# Altium schematic symbol library andylib.SchLib: 144 symbols (part 1 of 2)
Pins are listed as number, name and electrical type; pins without a type are passive.

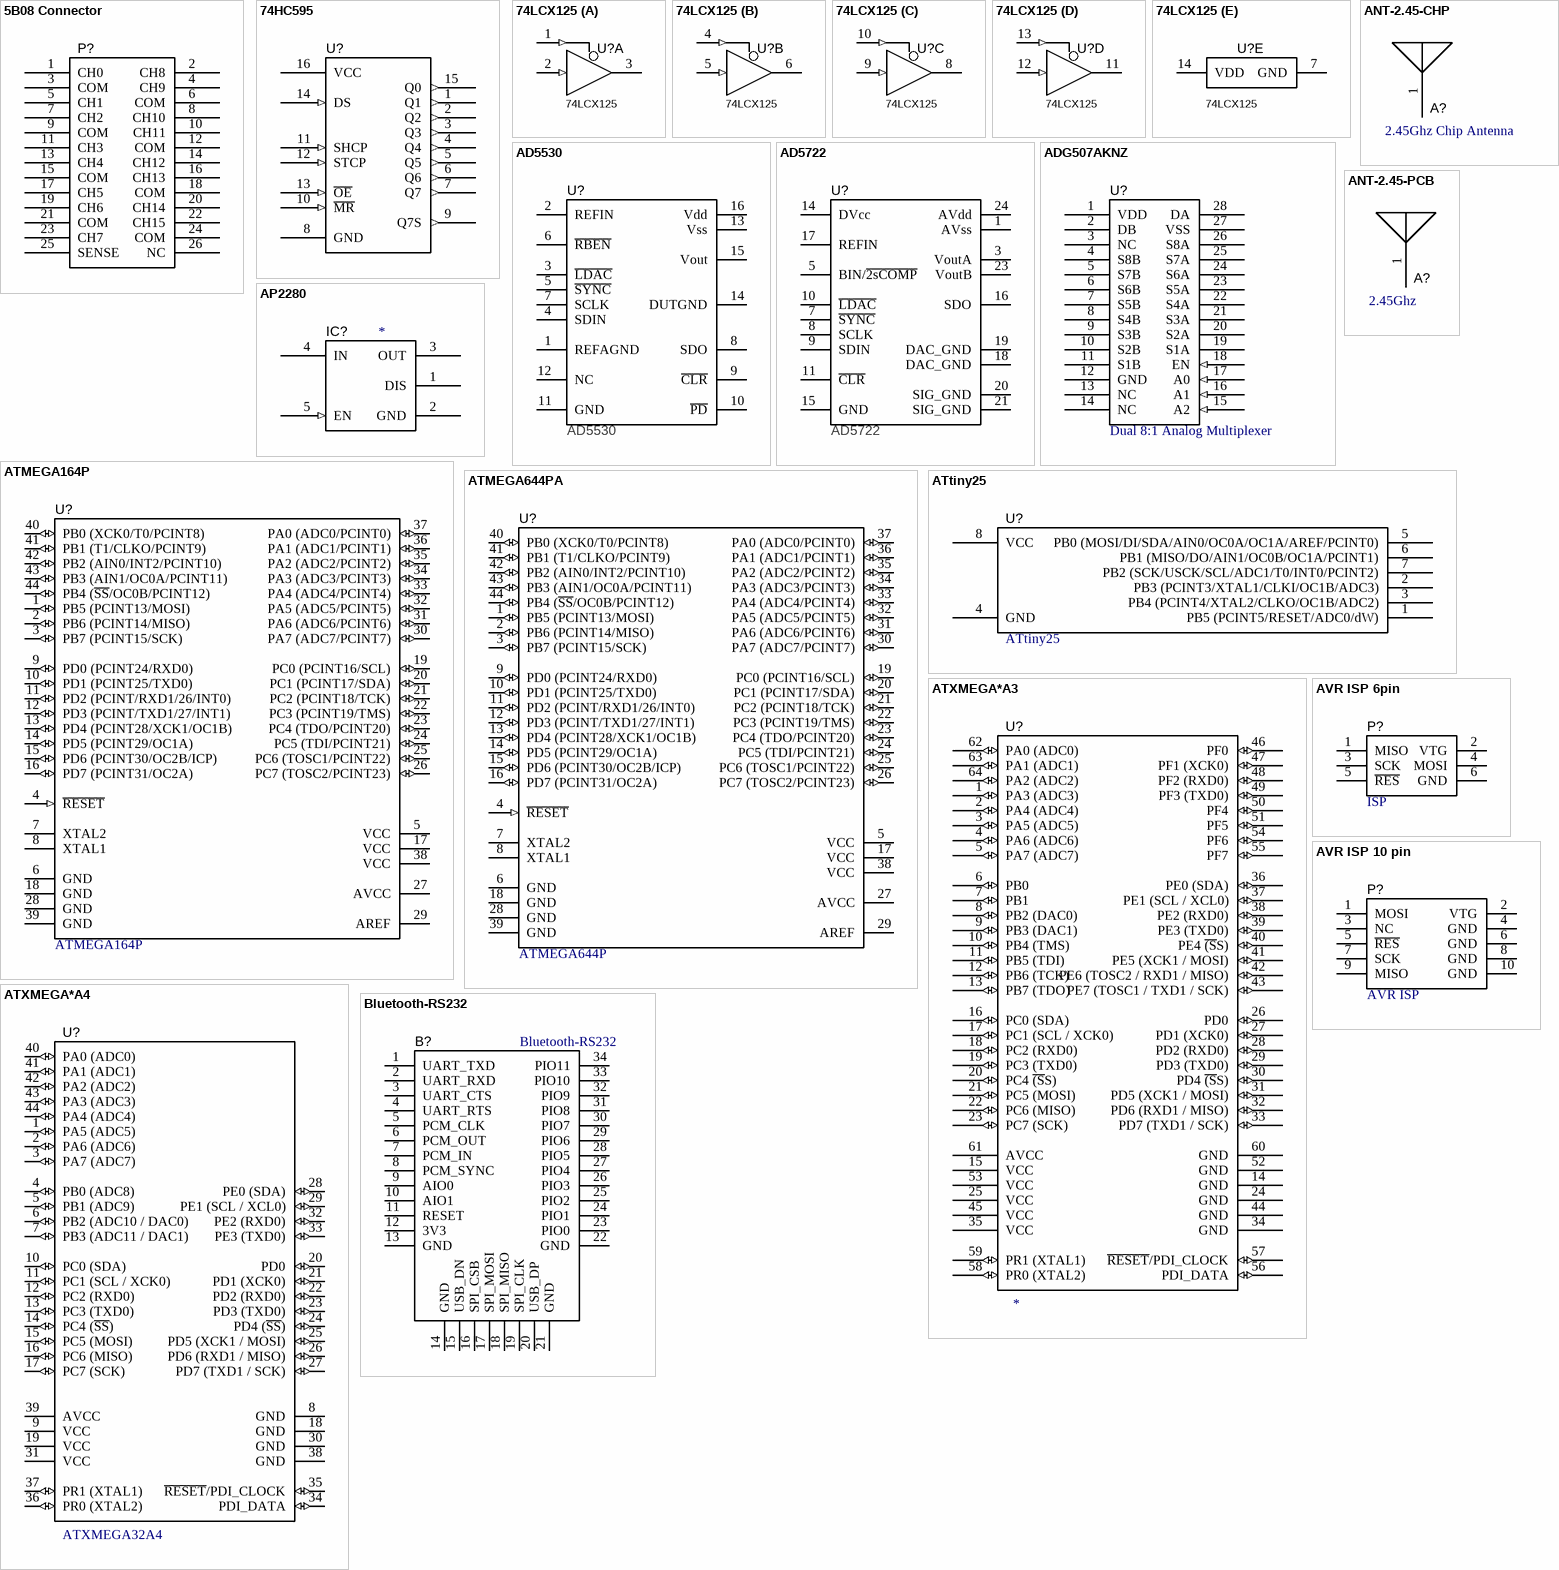
[diagram p0: symbols 5B08 Connector to Bluetooth-RS232]

## 5B08 Connector
designator P?  (value not drawn)
footprint HEADER2x13 (Connector; Header; 13x2 Position)
pins: 1 CH0, 2 CH8, 3 COM, 4 CH9, 5 CH1, 6 COM, 7 CH2, 8 CH10, 9 COM, 10 CH11, 11 CH3, 12 COM, 13 CH4, 14 CH12, 15 COM, 16 CH13, 17 CH5, 18 COM, 19 CH6, 20 CH14, 21 COM, 22 CH15, 23 CH7, 24 COM, 25 SENSE, 26 NC

## 74HC595
designator U?
8-bit shift register with output latches; Supplier 1: Digi-Key; Supplier Part Number 1: MM74HC595M-ND
footprint TSSOP16 (TSOP, 16-Leads, Body 5x4.4mm, Pitch 0.65mm, IPC Medium Density)
pins: 1 Q1 (out), 2 Q2 (out), 3 Q3 (out), 4 Q4 (out), 5 Q5 (out), 6 Q6 (out), 7 Q7 (out), 8 GND (power), 9 Q7S (out), 10 ~{MR} (in), 11 SHCP (in), 12 STCP (in), 13 ~{OE} (in), 14 DS (in), 15 Q0 (out), 16 VCC (power)

## 74LCX125
designator U?
Quad Buffer with 3-State Outputs; Published: 15-Apr-2002; LatestRevisionDate: 13-Apr-2006; LatestRevisionNote: IPC-7351 Footprint Added.; DatasheetVersion: 9-Apr-1996; PackageReference: 751A-03; Publisher: Altium Limited; PackageDescription: 14-Pin Small Outline Integrated Circuit 1.27 mm Pitch; Code_JEDEC: MS-012-AB; Code_IPC: SOIC127P600-14; ComponentLink1Description: Manufacturer Link; ComponentLink1URL: http://www.onsemi.com/; ComponentLink2Description: Datasheet; ComponentLink2URL: http://www.onsemi.com/pub/Collateral/MC74AC125-D.PDF; Supplier 1: Digi-Key; Supplier 2: Mouser; Supplier Part Number 1: 74LCX125MXCT-ND; Supplier Part Number 2: 512-74LCX125MX
footprint SOIC 14 (14-Pin Small Outline Integrated Circuit 1.27 mm Pitch, IPC Low Density)
part A pins: 1 ~{A} (in), 2 B (in), 3 Y (hiz)
part B pins: 4 ~{A} (in), 5 B (in), 6 Y (hiz)
part C pins: 8 Y (hiz), 9 B (in), 10 ~{A} (in)
part D pins: 11 Y (hiz), 12 B (in), 13 ~{A} (in)
part E pins: 7 GND (power), 14 VDD (power)

## AD5530
designator U?
12 bit +/-10V DAC
footprint TSSOP16 (TSOP, 16-Leads, Body 5x4.4mm, Pitch 0.65mm, IPC Medium Density)
pins: 1 REFAGND, 2 REFIN, 3 ~{LDAC}, 4 SDIN, 5 ~{SYNC}, 6 ~{RBEN}, 7 SCLK, 8 SDO, 9 ~{CLR}, 10 ~{PD}, 11 GND, 12 NC, 13 Vss, 14 DUTGND, 15 Vout, 16 Vdd

## AD5722
designator U?
12 bit +/-10V DAC
footprint TSSOP24 (TSOP, 24-Leads, Body 7.9x4.5mm (max), Pitch 0.65mm, IPC Low Density)
pins: 1 AVss, 2 NC hidden to Vout, 3 VoutA, 4 NC hidden to Vout, 5 BIN/~{2sCOMP}, 6 NC hidden to Vout, 7 ~{SYNC}, 8 SCLK, 9 SDIN, 10 ~{LDAC}, 11 ~{CLR}, 12 NC hidden to Vout, 13 NC hidden to Vout, 14 DVcc, 15 GND, 16 SDO, 17 REFIN, 18 DAC_GND, 19 DAC_GND, 20 SIG_GND, 21 SIG_GND, 22 NC hidden to Vout, 23 VoutB, 24 AVdd

## ADG507AKNZ
designator U?, comment Dual 8:1 Analog Multiplexer
Farnell: 9604960
footprint DIP-28
pins: 1 VDD (power), 2 DB, 3 NC, 4 S8B, 5 S7B, 6 S6B, 7 S5B, 8 S4B (power), 9 S3B, 10 S2B, 11 S1B, 12 GND, 13 NC, 14 NC, 15 A2 (in), 16 A1 (in), 17 A0 (in), 18 EN (in), 19 S1A, 20 S2A, 21 S3A, 22 S4A, 23 S5A, 24 S6A, 25 S7A, 26 S8A, 27 VSS (power), 28 DA

## ANT-2.45-CHP
designator A?, comment 2.45Ghz Chip Antenna
pins: 1

## ANT-2.45-PCB
designator A?, comment 2.45Ghz
2.45Ghz PCB Antenna
footprint ANT-PCB-2.45Ghz (PCB Antenna - #1)
pins: 1

## AP2280
designator IC?
Single Channel Load Switch
footprint SOT23-5 (SOT23, 5-Leads, Body 3.1x3.0mm (max), Pitch 0.95mm, IPC Low Density)
pins: 1 DIS, 2 GND (power), 3 OUT (power), 4 IN (power), 5 EN (in)

## ATMEGA164P
designator U?
8 bit RISC Microcontroller; Supplier 1: Digi-Key; Supplier 2: Mouser; Supplier Part Number 1: ATMEGA164P-20AU-ND; Supplier Part Number 2: 556-ATMEGA164P-20AU
footprint TQFP44
pins: 1 PB5 (PCINT13/MOSI) (io), 2 PB6 (PCINT14/MISO) (io), 3 PB7 (PCINT15/SCK) (io), 4 ~{RESET} (in), 5 VCC (power), 6 GND (power), 7 XTAL2, 8 XTAL1, 9 PD0 (PCINT24/RXD0) (io), 10 PD1 (PCINT25/TXD0) (io), 11 PD2 (PCINT/RXD1/26/INT0) (io), 12 PD3 (PCINT/TXD1/27/INT1) (io), 13 PD4 (PCINT28/XCK1/OC1B) (io), 14 PD5 (PCINT29/OC1A) (io), 15 PD6 (PCINT30/OC2B/ICP) (io), 16 PD7 (PCINT31/OC2A) (io), 17 VCC (power), 18 GND (power), 19 PC0 (PCINT16/SCL) (io), 20 PC1 (PCINT17/SDA) (io), 21 PC2 (PCINT18/TCK) (io), 22 PC3 (PCINT19/TMS) (io), 23 PC4 (TDO/PCINT20) (io), 24 PC5 (TDI/PCINT21) (io), 25 PC6 (TOSC1/PCINT22) (io), 26 PC7 (TOSC2/PCINT23) (io), 27 AVCC (power), 28 GND (power), 29 AREF (power), 30 PA7 (ADC7/PCINT7) (io), 31 PA6 (ADC6/PCINT6) (io), 32 PA5 (ADC5/PCINT5) (io), 33 PA4 (ADC4/PCINT4) (io), 34 PA3 (ADC3/PCINT3) (io), 35 PA2 (ADC2/PCINT2) (io), 36 PA1 (ADC1/PCINT1) (io), 37 PA0 (ADC0/PCINT0) (io), 38 VCC (power), 39 GND (power), 40 PB0 (XCK0/T0/PCINT8) (io), 41 PB1 (T1/CLKO/PCINT9) (io), 42 PB2 (AIN0/INT2/PCINT10) (io), 43 PB3 (AIN1/OC0A/PCINT11) (io), 44 PB4 (~{SS}/OC0B/PCINT12) (io)

## ATMEGA644PA
designator U?, comment ATMEGA644P
Supplier 1: Mouser; Supplier Part Number 1: 556-ATMEGA644P-20AU
footprint TQFP44
pins: 1 PB5 (PCINT13/MOSI) (io), 2 PB6 (PCINT14/MISO) (io), 3 PB7 (PCINT15/SCK) (io), 4 ~{RESET} (in), 5 VCC (power), 6 GND (power), 7 XTAL2, 8 XTAL1, 9 PD0 (PCINT24/RXD0) (io), 10 PD1 (PCINT25/TXD0) (io), 11 PD2 (PCINT/RXD1/26/INT0) (io), 12 PD3 (PCINT/TXD1/27/INT1) (io), 13 PD4 (PCINT28/XCK1/OC1B) (io), 14 PD5 (PCINT29/OC1A) (io), 15 PD6 (PCINT30/OC2B/ICP) (io), 16 PD7 (PCINT31/OC2A) (io), 17 VCC (power), 18 GND (power), 19 PC0 (PCINT16/SCL) (io), 20 PC1 (PCINT17/SDA) (io), 21 PC2 (PCINT18/TCK) (io), 22 PC3 (PCINT19/TMS) (io), 23 PC4 (TDO/PCINT20) (io), 24 PC5 (TDI/PCINT21) (io), 25 PC6 (TOSC1/PCINT22) (io), 26 PC7 (TOSC2/PCINT23) (io), 27 AVCC (power), 28 GND (power), 29 AREF (power), 30 PA7 (ADC7/PCINT7) (io), 31 PA6 (ADC6/PCINT6) (io), 32 PA5 (ADC5/PCINT5) (io), 33 PA4 (ADC4/PCINT4) (io), 34 PA3 (ADC3/PCINT3) (io), 35 PA2 (ADC2/PCINT2) (io), 36 PA1 (ADC1/PCINT1) (io), 37 PA0 (ADC0/PCINT0) (io), 38 VCC (power), 39 GND (power), 40 PB0 (XCK0/T0/PCINT8) (io), 41 PB1 (T1/CLKO/PCINT9) (io), 42 PB2 (AIN0/INT2/PCINT10) (io), 43 PB3 (AIN1/OC0A/PCINT11) (io), 44 PB4 (~{SS}/OC0B/PCINT12) (io)

## ATtiny25
designator U?
footprint SOIC8 - ATtiny25 (8-Pin Small Outline Integrated Circuit 1.27 mm Pitch, IPC High Density)
pins: 1 PB5 (PCINT5/RESET/ADC0/dW), 2 PB3 (PCINT3/XTAL1/CLKI/OC1B/ADC3), 3 PB4 (PCINT4/XTAL2/CLKO/OC1B/ADC2), 4 GND, 5 PB0 (MOSI/DI/SDA/AIN0/OC0A/OC1A/AREF/PCINT0), 6 PB1 (MISO/DO/AIN1/OC0B/OC1A/PCINT1), 7 PB2 (SCK/USCK/SCL/ADC1/T0/INT0/PCINT2), 8 VCC

## ATXMEGA*A3
designator U?
8/16 bit Microcontroller
footprint QFN64 (Quad Flat No Leads)
footprint TQFP80P1600X1600X120-64N (TQFP, 64-Leads, Body 16.3x16.3mm (max), Pitch 0.80mm, IPC Medium Density)
pins: 1 PA3 (ADC3) (io) "GPIO A0", 2 PA4 (ADC4) (io) "GPIO A0", 3 PA5 (ADC5) (io) "GPIO A0", 4 PA6 (ADC6) (io) "GPIO A0", 5 PA7 (ADC7) (io) "GPIO A0", 6 PB0 (io) "GPIO A0", 7 PB1 (io) "GPIO A0", 8 PB2 (DAC0) (io) "GPIO A0", 9 PB3 (DAC1) (io) "GPIO A0", 10 PB4 (TMS) (io) "GPIO A0", 11 PB5 (TDI) (io) "GPIO A0", 12 PB6 (TCK) (io) "GPIO A0", 13 PB7 (TDO) (io) "GPIO A0", 14 GND (power) "GPIO A0", 15 VCC (power) "GPIO A0", 16 PC0 (SDA) (io) "GPIO A0", 17 PC1 (SCL / XCK0) (io) "GPIO A0", 18 PC2 (RXD0) (io) "GPIO A0", 19 PC3 (TXD0) (io) "GPIO A0", 20 PC4 ~{(S}S) (io) "GPIO A0", 21 PC5 (MOSI) (io) "GPIO A0", 22 PC6 (MISO) (io) "GPIO A0", 23 PC7 (SCK) (io) "GPIO A0", 24 GND (power) "GPIO A0", 25 VCC (power) "GPIO A0", 26 PD0 (io) "GPIO A0", 27 PD1 (XCK0) (io) "GPIO A0", 28 PD2 (RXD0) (io) "GPIO A0", 29 PD3 (TXD0) (io) "GPIO A0", 30 PD4 ~{(S}S) (io) "GPIO A0", 31 PD5 (XCK1 / MOSI) (io) "GPIO A0", 32 PD6 (RXD1 / MISO) (io) "GPIO A0", 33 PD7 (TXD1 / SCK) (io) "GPIO A0", 34 GND (power) "GPIO A0", 35 VCC (power) "GPIO A0", 36 PE0 (SDA) (io) "GPIO A0", 37 PE1 (SCL / XCL0) (io) "GPIO A0", 38 PE2 (RXD0) (io) "GPIO A0", 39 PE3 (TXD0) (io) "GPIO A0", 40 PE4 ~{(S}S) (io) "GPIO A0", 41 PE5 (XCK1 / MOSI) (io) "GPIO A0", 42 PE6 (TOSC2 / RXD1 / MISO) (io) "GPIO A0", 43 PE7 (TOSC1 / TXD1 / SCK) (io) "GPIO A0", 44 GND (power) "GPIO A0", 45 VCC (power) "GPIO A0", 46 PF0 (io) "GPIO A0", 47 PF1 (XCK0) (io) "GPIO A0", 48 PF2 (RXD0) (io) "GPIO A0", 49 PF3 (TXD0) (io) "GPIO A0", 50 PF4 (io) "GPIO A0", 51 PF5 (io) "GPIO A0", 52 GND (power) "GPIO A0", 53 VCC (power) "GPIO A0", 54 PF6 (io) "GPIO A0", 55 PF7 (io) "GPIO A0", 56 PDI_DATA (io) "GPIO A0", 57 ~{RESET}/PDI_CLOCK (io) "GPIO A0", 58 PR0 (XTAL2) (io) "GPIO A0", 59 PR1 (XTAL1) (io) "GPIO A0", 60 GND (power) "GPIO A0", 61 AVCC (power) "GPIO A0", 62 PA0 (ADC0) (io) "GPIO A0", 63 PA1 (ADC1) (io) "GPIO A0", 64 PA2 (ADC2) (io) "GPIO A0"

## ATXMEGA*A4
designator U?, comment ATXMEGA32A4
8/16 bit Microcontroller; Supplier 1: Digi-Key; Supplier 2: Mouser; Supplier 3: Mouser; Supplier Part Number 1: ATXMEGA32A4-AU-ND; Supplier Part Number 3: 556-ATXMEGA32A4-AU
footprint TQFP44
pins: 1 PA5 (ADC5) (io), 2 PA6 (ADC6) (io), 3 PA7 (ADC7) (io), 4 PB0 (ADC8) (io), 5 PB1 (ADC9) (io), 6 PB2 (ADC10 / DAC0) (io), 7 PB3 (ADC11 / DAC1) (io), 8 GND (power), 9 VCC (power), 10 PC0 (SDA) (io), 11 PC1 (SCL / XCK0) (io), 12 PC2 (RXD0) (io), 13 PC3 (TXD0) (io), 14 PC4 (~{SS}) (io), 15 PC5 (MOSI) (io), 16 PC6 (MISO) (io), 17 PC7 (SCK) (io), 18 GND (power), 19 VCC (power), 20 PD0 (io), 21 PD1 (XCK0) (io), 22 PD2 (RXD0) (io), 23 PD3 (TXD0) (io), 24 PD4 (~{SS}) (io), 25 PD5 (XCK1 / MOSI) (io), 26 PD6 (RXD1 / MISO) (io), 27 PD7 (TXD1 / SCK) (io), 28 PE0 (SDA) (io), 29 PE1 (SCL / XCL0) (io), 30 GND (power), 31 VCC (power), 32 PE2 (RXD0) (io), 33 PE3 (TXD0) (io), 34 PDI_DATA (io), 35 ~{RESET}/PDI_CLOCK (io), 36 PR0 (XTAL2) (io), 37 PR1 (XTAL1) (io), 38 GND (power), 39 AVCC (power), 40 PA0 (ADC0) (io), 41 PA1 (ADC1) (io), 42 PA2 (ADC2) (io), 43 PA3 (ADC3) (io), 44 PA4 (ADC4) (io)

## AVR ISP 6pin
designator P?, comment ISP
AVR ISP 6pin; LatestRevisionDate: 17-Jul-2002; LatestRevisionNote: Re-released for DXP Platform.; Publisher: Altium Limited
footprint HEADER2X3 (Connector; Header; 3x2 Position)
footprint HEADER2X3 Shrouded (Connector; Header; 3x2 Position)
pins: 1 MISO, 2 VTG, 3 SCK, 4 MOSI, 5 ~{RES}, 6 GND

## AVR ISP 10 pin
designator P?, comment AVR ISP
2x5 Pin Programming Header for AVR Mega Series; LatestRevisionDate: 17-Jul-2002; LatestRevisionNote: Re-released for DXP Platform.; Publisher: Altium Limited
footprint HEADER2X5 (Connector; Header; 5x2 Position)
footprint HDR M_2x5_1.27mm_SMT
footprint HEADER2X5 Shrouded (Connector; Header; 5x2 Position)
pins: 1 MOSI, 2 VTG, 3 NC, 4 GND, 5 ~{RES}, 6 GND, 7 SCK, 8 GND, 9 MISO, 10 GND

## Bluetooth-RS232
designator B?
Bluetooth to RS232 Module
footprint BluetoothModule (Bluetooth to RS232 Adapter module)
footprint Bluetooth_PRismino
pins: 1 UART_TXD, 2 UART_RXD, 3 UART_CTS, 4 UART_RTS, 5 PCM_CLK, 6 PCM_OUT, 7 PCM_IN, 8 PCM_SYNC, 9 AIO0, 10 AIO1, 11 RESET, 12 3V3, 13 GND, 14 GND, 15 USB_DN, 16 SPI_CSB, 17 SPI_MOSI, 18 SPI_MISO, 19 SPI_CLK, 20 USB_DP, 21 GND, 22 GND, 23 PIO0, 24 PIO1, 25 PIO2, 26 PIO3, 27 PIO4, 28 PIO5, 29 PIO6, 30 PIO7, 31 PIO8, 32 PIO9, 33 PIO10, 34 PIO11

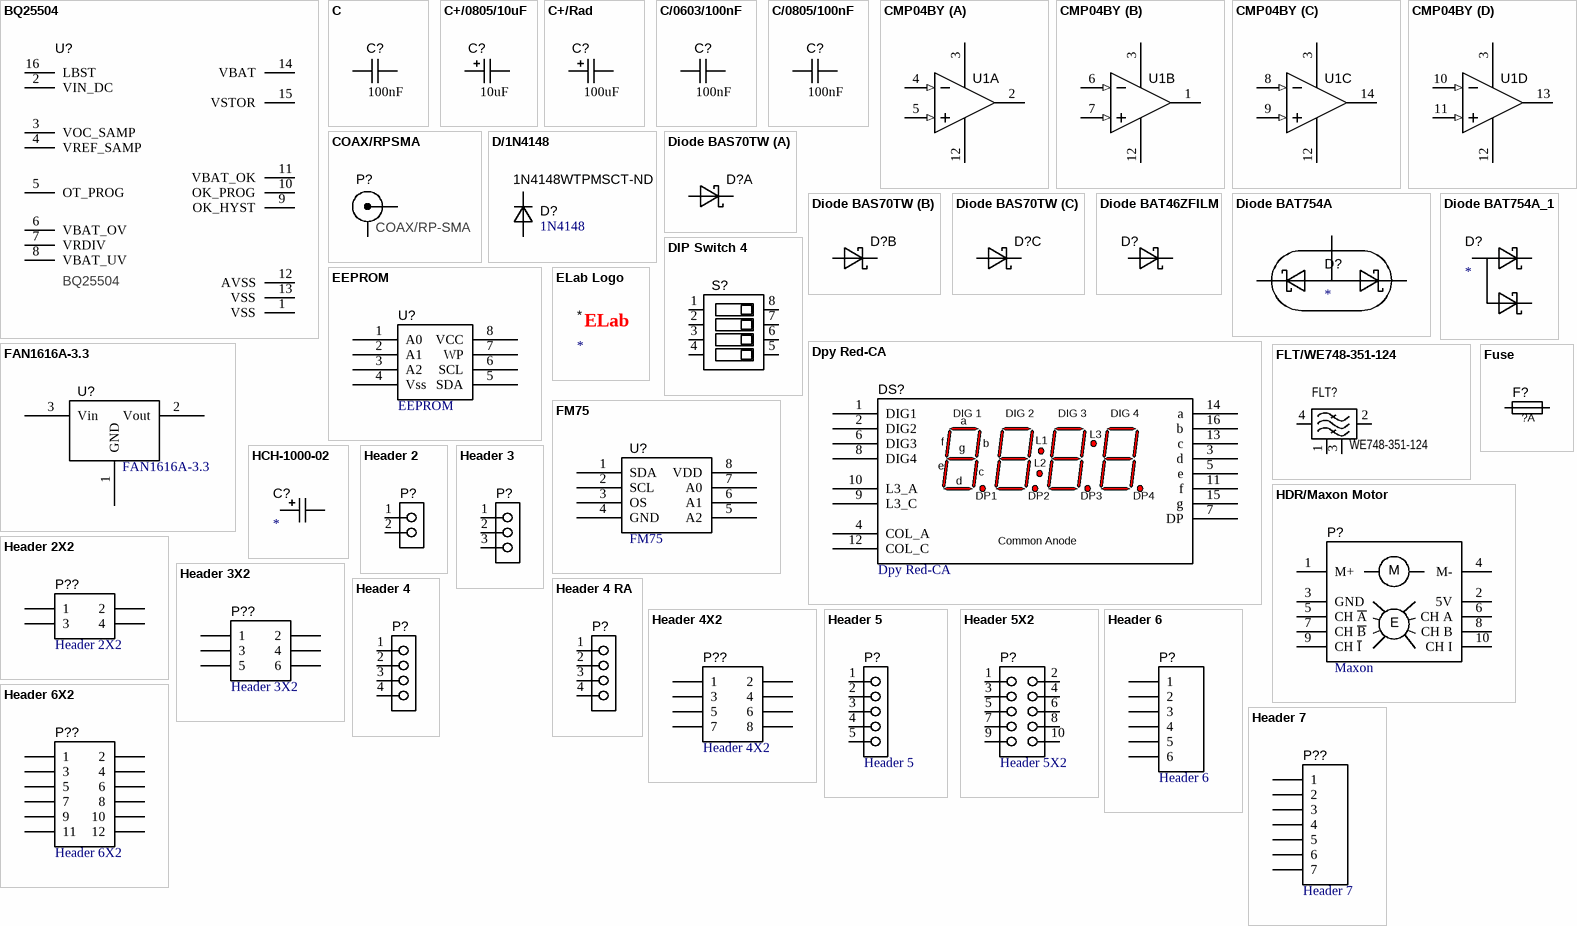
[diagram p1: symbols BQ25504 to Header 7]

## BQ25504
designator U?
Energy Harvesting IC
pins: 1 VSS, 2 VIN_DC, 3 VOC_SAMP, 4 VREF_SAMP, 5 OT_PROG, 6 VBAT_OV, 7 VRDIV, 8 VBAT_UV, 9 OK_HYST, 10 OK_PROG, 11 VBAT_OK, 12 AVSS, 13 VSS, 14 VBAT, 15 VSTOR, 16 LBST

## C
designator C?  value 100nF  (hidden comment: C)
Capacitor; Published: 8-Jun-2000; LatestRevisionDate: 17-Jul-2002; LatestRevisionNote: Re-released for DXP Platform.; PackageReference: RAD-0.3; Publisher: Altium Limited
footprint C/0603 (Chip Capacitor, Body 1.6x0.8mm, IPC High Density)
footprint C/0805 (Chip Resistor; Body 2.0 x 1.3 mm (LxW typ))
pins: 1, 2

## C+/0805/10uF
designator C?  value 10uF  (hidden comment: C+/0805/10uF)
Polarized Capacitor (Radial); Published: 8-Jun-2000; LatestRevisionDate: 17-Jul-2002; LatestRevisionNote: Re-released for DXP Platform.; PackageReference: RB7.6-15; Publisher: Altium Limited
footprint C+/0805 (Chip Capacitor, Body 2.0x1.3mm, IPC High Density)
pins: 1, 2
1 alternate drawing of the same symbol

## C+/Rad
designator C?, comment value 100uF  (hidden comment: C Pol)
Polarized Capacitor (Radial); Published: 8-Jun-2000; LatestRevisionDate: 17-Jul-2002; LatestRevisionNote: Re-released for DXP Platform.; PackageReference: RB7.6-15; Publisher: Altium Limited
footprint C+/Rad-6x12mm (Capacitor, Electrolytic, Radial; Body 5 x 6.8 mm (Dia.xH typ); Pin Spacing 2 mm (typ))
pins: 1, 2
1 alternate drawing of the same symbol

## C/0603/100nF
designator C?  value 100nF  (hidden comment: C/0603/100nF)
Capacitor; Published: 8-Jun-2000; LatestRevisionDate: 17-Jul-2002; LatestRevisionNote: Re-released for DXP Platform.; PackageReference: RAD-0.3; Publisher: Altium Limited
footprint C/0603 (Chip Capacitor, Body 1.6x0.8mm, IPC High Density)
pins: 1, 2

## C/0805/100nF
designator C?  value 100nF  (hidden comment: C/0805/100nF)
Capacitor; Published: 8-Jun-2000; LatestRevisionDate: 17-Jul-2002; LatestRevisionNote: Re-released for DXP Platform.; PackageReference: RAD-0.3; Publisher: Altium Limited
footprint C/0805 (Chip Resistor; Body 2.0 x 1.3 mm (LxW typ))
pins: 1, 2

## CMP04BY
designator U1  (value not drawn)
Quad Low-Power, Precision Comparator; Published: 8-Jun-2000; LatestRevisionDate: 04-Mar-2005; LatestRevisionNote: Stylized 3D Model Added.; DatasheetVersion: REV. C 1998; PackageVersion: revC, 1998; PackageReference: Q-14_B; Publisher: Altium Limited; PackageDescription: DIP; 14 Leads; Row Spacing 7.62 mm; Pitch 2.54 mm; ComponentLink1Description: Manufacturer Link; ComponentLink1URL: http://www.analog.com/en/prod/0%2C2877%2CCMP04%2C00.html; ComponentLink2Description: Datasheet; ComponentLink2URL: http://www.analog.com/UploadedFiles/Data_Sheets/281142995CMP04_d.pdf; Farnell: 1439008
footprint SOIC 14 (14-Pin Small Outline Integrated Circuit 1.27 mm Pitch, IPC Low Density)
pins on every part: 3 V+ (power), 12 V- (power)
part A pins: 2 OUT (oc), 4 IN- (in), 5 IN+ (in)
part B pins: 1 OUT (oc), 6 IN- (in), 7 IN+ (in)
part C pins: 8 IN- (in), 9 IN+ (in), 14 OUT (oc)
part D pins: 10 IN- (in), 11 IN+ (in), 13 OUT (oc)

## COAX/RPSMA
designator P?, comment COAX/RP-SMA
RCA Jack
footprint COAX/RP-SMA (PCB Mount RP-SMA)
pins: 1, 2

## D/1N4148
designator D?, comment 1N4148  Supplier Part Number 2: 1N4148WTPMSCT-ND
High Conductance Fast Diode; Published: 8-Jun-2000; LatestRevisionDate: 17-Jul-2002; LatestRevisionNote: Re-released for DXP Platform.; DatasheetVersion: 1997; PackageReference: DO-35; Publisher: Altium Limited; PackageDescription: Diode, Axial; Body 3.8 x 1.9 mm (LxDia. max), Lead Dia. 0.53 mm (max); Code_JEDEC: DO-204-AH; ComponentLink1Description: Manufacturer Link; ComponentLink1URL: http://www.fairchildsemi.com/; ComponentLink2Description: Datasheet; ComponentLink2URL: http://www.fairchildsemi.com/ds/1N%2F1N4148.pdf; Supplier 1: Digi-Key; Supplier Part Number 1: 1N4148WTCT-ND; Supplier 2: Digi-Key
footprint D/SOD-523F
footprint D/DO-35 (Diode, Axial; Body 3.8 x 1.9 mm (LxDia. max), Lead Dia. 0.53 mm (max))
footprint D/DO-35 - vertical (Diode, Axial; Body 3.8 x 1.9 mm (LxDia. max), Lead Dia. 0.53 mm (max))
footprint D/SOD-123
pins: 1 A, 2 K

## Diode BAS70TW
designator D?, comment BAS70TW  (value not drawn)
Schottky Diode; Supplier 1: Digi-Key; Supplier Part Number 1: BAS70TW-FDICT-ND
footprint SC70-6 (SOT23, 6-Leads, Body 2.1x2.1mm (max), Pitch 0.65mm, IPC Low Density)
part A pins: 1 A, 6 K
part B pins: 2 A, 5 K
part C pins: 3 A, 4 K

## Diode BAT46ZFILM
designator D?, comment BAT46ZFILM  (value not drawn)
Schottky Diode
footprint D/SOD-123
pins: 1 A, 2 K

## Diode BAT754A
designator D?
Dual Schottky Diode, Low Vf
footprint SOT95P230X111-3M (SOT23, 3-Leads, Body 3.0x2.5mm (max), Pitch 0.95mm, IPC Low Density)
pins: 1 K, 2 K, 3 A

## Diode BAT754A_1
designator D?
Dual Schottky Diode, Low Vf
footprint SOT95P230X111-3M (SOT23, 3-Leads, Body 3.0x2.5mm (max), Pitch 0.95mm, IPC Low Density)
pins: 1 K, 2 K, 3 A

## DIP Switch 4
designator S?, comment DIP SW 4  (value not drawn)
8/16 bit Microcontroller
footprint DIP SW 8
pins: 1, 2, 3, 4, 5, 6, 7, 8

## Dpy Red-CA
designator DS?
7.62 mm Black Surface HER 7-Segment Display: CA, RH DP; MinimumIntensity: 360 ucd; Note: IF = 5 mA; Colour: High Efficiency Red (HER); Note: Pins 1 and 6 are redundant Anodes.; Published: 8-Jun-2000; LatestRevisionDate: 17-Dec-2003; LatestRevisionNote: Schematic revised, PCB Footprint replaced.; DatasheetVersion: 19-Feb-2002; PackageVersion: 11-Feb-2002; PackageReference: A; Publisher: Altium Limited; PackageDescription: LED, 7-Segment Display, 7.62 mm, RHD; 10 Leads; Row Space 5.08 mm; Pitch 2.54 mm; ComponentLink1Description: Manufacturer Link; ComponentLink1URL: http://www.agilent.com/
footprint YSD-439AB4B (4 Digit 7 Segment display)
pins: 1 DIG1, 2 DIG2, 3 d, 4 COL_A, 5 e, 6 DIG3, 7 DP, 8 DIG4, 9 L3_C, 10 L3_A, 11 f, 12 COL_C, 13 c, 14 a, 15 g, 16 b
text: DIG 1; DIG 2; DIG 3; DIG 4; L3; L1; L2; DP1; DP2; DP3; DP4; Common Anode

## EEPROM
designator U?
footprint SOIC 8 (8-Pin Small Outline Integrated Circuit 1.27 mm Pitch, IPC High Density)
pins: 1 A0, 2 A1, 3 A2, 4 Vss (power), 5 SDA, 6 SCL, 7 WP, 8 VCC (power)

## ELab Logo
designator *
footprint ELab_Logo
text: ELab

## FAN1616A-3.3
designator U?
3.3V LDO 500mA
footprint SOT223-4M (SOT223, 4-Leads, Body 6.5x3.5mm, Pitch 2.3mm, Lead Span 7mm, IPC Low Density)
pins: 1 GND, 2 Vout (power), 3 Vin (power), 4 Vout (power) hidden to Vout

## FLT/WE748-351-124
designator FLT?, comment WE748-351-124
RF Filter; Isat: *
footprint WE-Filter-748351124 (2.45Ghz RF Filter)
pins: 1, 2, 3, 4

## FM75
designator U?
I2C Temperature Sensor with Alarm; Supplier 1: Digi-Key; Supplier 2: Mouser; Supplier Part Number 1: FM75M8-ND; Supplier Part Number 2: 512-FM75M8
footprint SOIC 8 (8-Pin Small Outline Integrated Circuit 1.27 mm Pitch, IPC High Density)
pins: 1 SDA, 2 SCL, 3 OS, 4 GND (power), 5 A2, 6 A1, 7 A0, 8 VDD (power)

## Fuse
designator F?, comment ?A
Fuse; Published: 8-Jun-2000; LatestRevisionDate: 17-Jul-2002; LatestRevisionNote: Re-released for DXP Platform.; PackageReference: AXIAL-0.4; Publisher: Altium Limited; Value: ?A
footprint Fuse (Fuse holder with small fuse)
pins: 1, 2

## HCH-1000-02
designator C?
Capacitive Humidity Sensor
footprint HCH-1000 (Capacitive Humidity Sensor)
pins: 1, 2

## HDR/Maxon Motor
designator P?, comment Maxon
Maxon motor connector; LatestRevisionDate: 17-Jul-2002; LatestRevisionNote: Re-released for DXP Platform.; Publisher: Altium Limited
footprint HEADER2X5 Shrouded (Connector; Header; 5x2 Position)
pins: 1 M+, 2 5V, 3 GND, 4 M-, 5 CH ~{A}, 6 CH A, 7 CH ~{B}, 8 CH B, 9 CH ~{I}, 10 CH I
text: M; E

## Header 2
designator P?  (value not drawn)
Header, 2-Pin; LatestRevisionDate: 17-Jul-2002; LatestRevisionNote: Re-released for DXP Platform.; Publisher: Altium Limited
footprint HEADER1x2 (2.54mm Header)
footprint JST-B2B-PH-K-S (JST Shrouded SMT Side-entry Header, 4 pins)
pins: 1, 2

## Header 2X2
designator P??
Header, 2-Pin, Dual row; LatestRevisionDate: 17-Jul-2002; LatestRevisionNote: Re-released for DXP Platform.; Publisher: Altium Limited
footprint Header 2x2
pins: 1, 2, 3, 4

## Header 3
designator P?  (value not drawn)
Header, 3-Pin; LatestRevisionDate: 17-Jul-2002; LatestRevisionNote: Re-released for DXP Platform.; Publisher: Altium Limited
footprint HEADER1x3 (Connector; Header; 3 Position)
footprint JST-B3B-PH-K-S (JST Shrouded SMT Side-entry Header, 3 pins)
pins: 1, 2, 3

## Header 3X2
designator P??
Header, 3-Pin, Dual row; LatestRevisionDate: 17-Jul-2002; LatestRevisionNote: Re-released for DXP Platform.; Publisher: Altium Limited
footprint HEADER2X3 (Connector; Header; 3x2 Position)
pins: 1, 2, 3, 4, 5, 6

## Header 4
designator P?  (value not drawn)
Header, 4-Pin; LatestRevisionDate: 17-Jul-2002; LatestRevisionNote: Re-released for DXP Platform.; Publisher: Altium Limited
footprint HEADER1x4 (Connector; Header; 4 Position)
footprint JST-B4B-PH-K-S (JST Shrouded SMT Side-entry Header, 4 pins)
footprint TYCO/215079-4
pins: 1, 2, 3, 4

## Header 4 RA
designator P?
Header, 4-Pin, Right Angle
footprint HEADER1x4 - RA (Connector; Header; Right Angle; 4 Position)
pins: 1, 2, 3, 4

## Header 4X2
designator P??
Header, 4-Pin, Dual row; LatestRevisionDate: 17-Jul-2002; LatestRevisionNote: Re-released for DXP Platform.; Publisher: Altium Limited
signal-integrity model Connector
pins: 1, 2, 3, 4, 5, 6, 7, 8

## Header 5
designator P?
Header, 5-Pin; LatestRevisionDate: 17-Jul-2002; LatestRevisionNote: Re-released for DXP Platform.; Publisher: Altium Limited
footprint HEADER1X5 (Connector; Header; 5 Position)
footprint JST-B5B-PH-K-S (JST Shrouded SMT Side-entry Header, 4 pins)
footprint MOLEX KK 5 (Molex KK Series - 22-23-2051)
pins: 1, 2, 3, 4, 5

## Header 5X2
designator P?
Header, 5-Pin, Dual row; LatestRevisionDate: 17-Jul-2002; LatestRevisionNote: Re-released for DXP Platform.; Publisher: Altium Limited
footprint HEADER2X5 (Connector; Header; 5x2 Position)
footprint Header2x5 through board (4uCon 10709)
pins: 1, 2, 3, 4, 5, 6, 7, 8, 9, 10

## Header 6
designator P?
Header, 6-Pin; LatestRevisionDate: 17-Jul-2002; LatestRevisionNote: Re-released for DXP Platform.; Publisher: Altium Limited
footprint HEADER1X6 (Connector; Header; 6 Position)
footprint Arduino Pad 6
pins: 1, 2, 3, 4, 5, 6

## Header 6X2
designator P??
Header, 6-Pin, Dual row; LatestRevisionDate: 17-Jul-2002; LatestRevisionNote: Re-released for DXP Platform.; Publisher: Altium Limited
pins: 1, 2, 3, 4, 5, 6, 7, 8, 9, 10, 11, 12

## Header 7
designator P??
Header, 7-Pin; LatestRevisionDate: 17-Jul-2002; LatestRevisionNote: Re-released for DXP Platform.; Publisher: Altium Limited
footprint HEADER1X7 (Connector; Header; 7 Position)
pins: 1, 2, 3, 4, 5, 6, 7

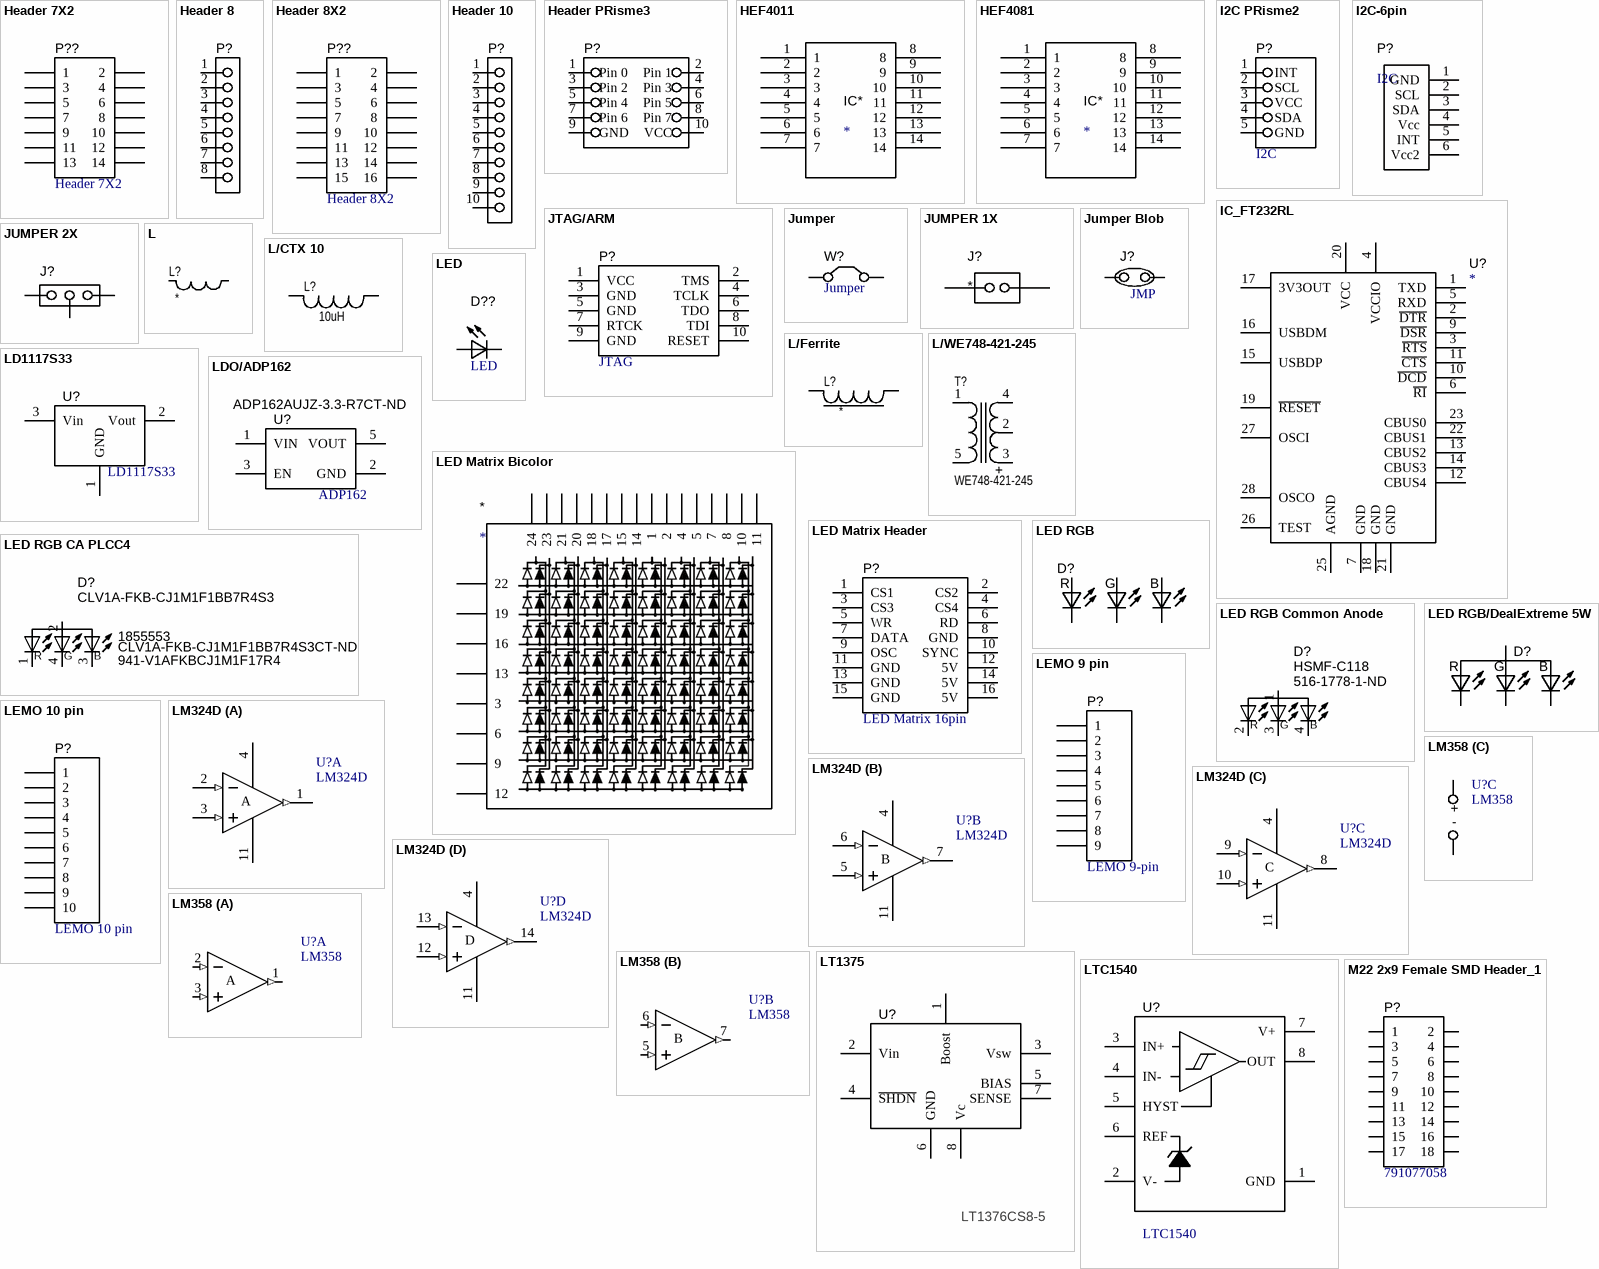
[diagram p2: symbols Header 7X2 to M22 2x9 Female SMD Header_1]

## Header 7X2
designator P??
Header, 7-Pin, Dual row; LatestRevisionDate: 17-Jul-2002; LatestRevisionNote: Re-released for DXP Platform.; Publisher: Altium Limited
footprint HEADER2X7 (Connector; Header; 7x2 Position)
pins: 1, 2, 3, 4, 5, 6, 7, 8, 9, 10, 11, 12, 13, 14

## Header 8
designator P?  (value not drawn)
Header, 8-Pin; LatestRevisionDate: 17-Jul-2002; LatestRevisionNote: Re-released for DXP Platform.; Publisher: Altium Limited
footprint HEADER1X8 (Connector; Header; 8 Position)
footprint TYCO/215079-8
footprint Arduino Pad 8
pins: 1, 2, 3, 4, 5, 6, 7, 8

## Header 8X2
designator P??
Header, 8-Pin, Dual row; LatestRevisionDate: 17-Jul-2002; LatestRevisionNote: Re-released for DXP Platform.; Publisher: Altium Limited
footprint HEADER2X8 (Connector; Header; 8x2 Position)
pins: 1, 2, 3, 4, 5, 6, 7, 8, 9, 10, 11, 12, 13, 14, 15, 16

## Header 10
designator P?  (value not drawn)
Header, 10-Pin
footprint HEADER1X10 (Connector; Header; 10 Position)
footprint Arduino Pad 10
pins: 1, 2, 3, 4, 5, 6, 7, 8, 9, 10

## Header PRisme3
designator P?  (value not drawn)
Header, 5-Pin, Dual row
footprint HEADER2X5 (Connector; Header; 5x2 Position)
footprint Header2x5 through board (4uCon 10709)
pins: 1 Pin 0, 2 Pin 1, 3 Pin 2, 4 Pin 3, 5 Pin 4, 6 Pin 5, 7 Pin 6, 8 Pin 7, 9 GND, 10 VCC

## HEF4011
designator IC*
footprint HEF4011_O-14_M (14-Pin Small Outline Integrated Circuit 1.27 mm Pitch, IPC Low Density)
pins: 1, 2, 3, 4, 5, 6, 7, 8, 9, 10, 11, 12, 13, 14

## HEF4081
designator IC*
footprint HEF4018_O-14_M (14-Pin Small Outline Integrated Circuit 1.27 mm Pitch, IPC Low Density)
pins: 1, 2, 3, 4, 5, 6, 7, 8, 9, 10, 11, 12, 13, 14

## I2C PRisme2
designator P?, comment I2C
PRisme2 I2C 5-pin Header
footprint HEADER1X5 (Connector; Header; 5 Position)
footprint JST-B5B-PH-K-S (JST Shrouded SMT Side-entry Header, 4 pins)
footprint MOLEX KK 5 (Molex KK Series - 22-23-2051)
pins: 1  INT, 2  SCL, 3  VCC, 4  SDA, 5  GND

## I2C-6pin
designator P?, comment I2C
I2C Header with interrupt line, 6 pin micromatch
footprint TYCO_7-188275-6 - DBR (Micro-Match 6 pins Female on board Vertical Smd connector)
pins: 1 GND, 2 SCL, 3 SDA, 4 Vcc, 5 INT, 6 Vcc2

## IC_FT232RL
designator U?
FT232R USB UART; Manufacturer: *; Note: *; ManufacturerPartNo: *
footprint SSOP-28 (28-Pin SSOP 0.65 mm Pitch)
footprint SSOP-28/FT232RL (28-Pin SSOP 0.65 mm Pitch)
pins: 1 TXD, 2 ~{DTR}, 3 ~{RTS}, 4 VCCIO, 5 RXD, 6 ~{RI}, 7 GND, 8 NC hidden, 9 ~{DSR}, 10 ~{DCD}, 11 ~{CTS}, 12 CBUS4, 13 CBUS2, 14 CBUS3, 15 USBDP, 16 USBDM, 17 3V3OUT, 18 GND, 19 ~{RESET}, 20 VCC, 21 GND, 22 CBUS1, 23 CBUS0, 24 NC hidden, 25 AGND, 26 TEST, 27 OSCI, 28 OSCO
2 alternate drawings of the same symbol

## JTAG/ARM
designator P?, comment JTAG
ARM 10-pin JTAG
footprint HEADER2X5 (Connector; Header; 5x2 Position)
footprint HDR M_2x5_1.27mm_SMT
footprint HEADER2X5 Shrouded (Connector; Header; 5x2 Position)
pins: 1 VCC, 2 TMS, 3 GND, 4 TCLK, 5 GND, 6 TDO, 7 RTCK, 8 TDI, 9 GND, 10 RESET

## Jumper
designator W?
Zero-Ohm; Published: 24-Mar-1999; LatestRevisionDate: 17-Jul-2002; LatestRevisionNote: Re-released for DXP Platform.; PackageReference: RAD-0.2; Publisher: Altium Limited
footprint RES-1608[0603] (Chip Resistor, Body 1.6x0.8mm, IPC High Density)
footprint HEADER1x2 (2.54mm Header)
footprint R/0603 (Chip Resistor, Body 1.6x0.8mm, IPC High Density)
pins: 1 C1, 2 C2

## JUMPER 1X
designator J?
footprint JUMPER 2x
pins: 1, 2

## JUMPER 2X
designator J?  (value not drawn)
3 way solder jumper
footprint JUMPER 3x
pins: 1, 2, 3

## Jumper Blob
designator J?, comment JMP
Zero-Ohm
footprint JUMPER 2x Solder
pins: 1 C1, 2 C2

## L
designator L?
Value: *; Isat: *
footprint L/0603 (Chip Inductor, Body 1.6x0.8mm, IPC High Density)
footprint RL622-2R2K-RC
pins: 1, 2

## L/CTX 10
designator L?, comment 10uH
CTX 10 1P - Parallel; Value: 10uH
footprint CTX 1P (Dual SMD Power Inductor)
pins: 1, 2, 3 1, 4 3

## L/Ferrite
designator L?
Value: *; Isat: *
pins: 1, 2

## L/WE748-421-245
designator T?, comment WE748-421-245
RF Balun; Value: *; Isat: *
footprint WE-BALUN-748421245 (2.45Ghz RF Balun 50/100 Ohm)
pins: 1, 2, 3, 4, 5
text: +

## LD1117S33
designator U?
3.3V LDO 800mA
footprint SOT223-4M (SOT223, 4-Leads, Body 6.5x3.5mm, Pitch 2.3mm, Lead Span 7mm, IPC Low Density)
pins: 1 GND, 2 Vout (power), 3 Vin (power), 4 (power) hidden to Vout

## LDO/ADP162
designator U?, comment ADP162  Supplier Part Number 1: ADP162AUJZ-3.3-R7CT-ND
3.3V LDO 150mA; Supplier 1: Digi-Key
footprint SOT23-5 (SOT23, 5-Leads, Body 3.1x3.0mm (max), Pitch 0.95mm, IPC Low Density)
footprint TSOT23-5 (SOT23, 5-Leads, Body 3.0x2.6mm (max), Pitch 0.95mm, IPC Medium Density)
pins: 1 VIN, 2 GND (power), 3 EN, 4 NC hidden, 5 VOUT (power)

## LED
designator D??
Published: 8-Jun-2000; LatestRevisionDate: 08-Jul-2005; LatestRevisionNote: Mech Layer 1 removed.; PackageReference: LED-0; Publisher: Altium Limited
footprint LED-2012[0805] (Chip Resistor; Body 2.0 x 1.3 mm (LxW typ))
pins: A, K

## LED Matrix Bicolor
designator *
footprint LED Matrix Bicolor
pins: 1, 2, 3, 4, 5, 6, 7, 8, 9, 10, 11, 12, 13, 14, 15, 16, 17, 18, 19, 20, 21, 22, 23, 24

## LED Matrix Header
designator P?, comment LED Matrix 16pin
16pin Header for 24x16 Matrix; LatestRevisionDate: 17-Jul-2002; LatestRevisionNote: Re-released for DXP Platform.; Publisher: Altium Limited
footprint HEADER2X8 (Connector; Header; 8x2 Position)
pins: 1 CS1, 2 CS2, 3 CS3, 4 CS4, 5 WR, 6 RD, 7 DATA, 8 GND, 9 OSC, 10 SYNC, 11 GND, 12 5V, 13 GND, 14 5V, 15 GND, 16 5V

## LED RGB
designator D?, comment CLV6A-FKB  (value not drawn)
RGB LED in PLCC6 package; Published: 8-Jun-2000; LatestRevisionDate: 08-Jul-2005; LatestRevisionNote: Mech Layer 1 removed.; PackageReference: LED-0; Publisher: Altium Limited; Supplier 1: Digi-Key; Supplier Part Number 1: CLV6A-FKB-CK1P1G1BB7R3R3CT-ND
footprint PLCC6
pins: 1 K_B, 2 K_G, 3 K_R, 4 A_R, 5 A_G, 6 A_B
text: R; G; B

## LED RGB CA PLCC4
designator D?, comment CLV1A-FKB-CJ1M1F1BB7R4S3  Supplier Part Number 1: 941-V1AFKBCJ1M1F17R4  Supplier Part Number 2: 1855553  Supplier Part Number 3: CLV1A-FKB-CJ1M1F1BB7R4S3CT-ND
LED CHIP RGB 3.2X2.7X1.1MM SMD; Supplier 1: Mouser; Supplier 2: Farnell; Supplier 3: Digi-Key
footprint PLCC4
pins: 1, 2, 3, 4
text: R; G; B

## LED RGB Common Anode
designator D?, comment HSMF-C118  Supplier Part Number 1: 516-1778-1-ND
LED CHIP RGB 3.2X2.7X1.1MM SMD; Supplier 1: Digi-Key
footprint SM/D1210
footprint PLCC4; pin to pad 1>2 2>1 3>4 4>3
pins: 1, 2, 3, 4
text: R; G; B

## LED RGB/DealExtreme 5W
designator D?, comment RGB LED  (value not drawn)
5 Watt through-hole LED with integrated heatsink; Published: 8-Jun-2000; LatestRevisionDate: 08-Jul-2005; LatestRevisionNote: Mech Layer 1 removed.; PackageReference: LED-0; Publisher: Altium Limited
footprint RGB LED 5W DealExtreme (5W RGB LED from DealExtreme / SKU 20999)
pins: 1 A, 2 R, 3 G, 4 B

## LEMO 9 pin
designator P?, comment LEMO 9-pin
Header, 9-Pin; LatestRevisionDate: 17-Jul-2002; LatestRevisionNote: Re-released for DXP Platform.; Publisher: Altium Limited
signal-integrity model Connector
footprint LEMO Conn - 9 pin (9 pin LEMO Socket - 90°)
pins: 1, 2, 3, 4, 5, 6, 7, 8, 9

## LEMO 10 pin
designator P?
Header, 10-Pin; LatestRevisionDate: 17-Jul-2002; LatestRevisionNote: Re-released for DXP Platform.; Publisher: Altium Limited
signal-integrity model Connector
footprint LEMO Conn - 10 pin (10 pin LEMO Socket - 90°)
pins: 1, 2, 3, 4, 5, 6, 7, 8, 9, 10

## LM324D
designator U?
Low-Power Quad Operational Amplifier; Published: 24-Aug-2001; LatestRevisionDate: 13-Apr-2006; LatestRevisionNote: IPC-7351 Footprint Added.; DatasheetVersion: Jun-1999; PackageVersion: Sep-1998; PackageReference: SO14; Publisher: Altium Limited; PackageDescription: 14-Pin Small Outline Integrated Circuit 1.27 mm Pitch; Code_IPC: SOIC127P600-14; ComponentLink1Description: Manufacturer Link; ComponentLink1URL: http://www.st.com/; ComponentLink2Description: Datasheet; ComponentLink2URL: http://www.st.com/stonline/products/literature/ds/2156/lm324.pdf
footprint SOIC 14 (14-Pin Small Outline Integrated Circuit 1.27 mm Pitch, IPC Low Density)
pins on every part: 4 V+ (power), 11 V- (power)
part A pins: 1 OUT (out), 2 IN- (in), 3 IN+ (in)
part B pins: 5 IN+ (in), 6 IN- (in), 7 OUT (out)
part C pins: 8 OUT (out), 9 IN- (in), 10 IN+ (in)
part D pins: 12 IN+ (in), 13 IN- (in), 14 OUT (out)
part A text: A
part B text: B
part C text: C
part D text: D

## LM358
designator U?
Low-Power Dual Operational Amplifier
footprint SOIC 8 (8-Pin Small Outline Integrated Circuit 1.27 mm Pitch, IPC High Density)
part A pins: 1 OUT (out), 2 IN- (in), 3 IN+ (in)
part B pins: 5 IN+ (in), 6 IN- (in), 7 OUT (out)
part C pins: 4 V- (power), 8 V+ (power)
part A text: A
part B text: B
part C text: +; -

## LT1375
designator U?, comment LT1376CS8-5
1.5A 5V buck converter
footprint SOIC 8 (8-Pin Small Outline Integrated Circuit 1.27 mm Pitch, IPC High Density)
pins: 1 Boost, 2 Vin, 3 Vsw, 4 ~{SHDN}, 5 BIAS, 6 GND, 7 SENSE, 8 Vc

## LTC1540
designator U?
Nanopower comparator with voltage reference; Supplier 1: Digi-Key; Supplier 2: Digi-Key; Supplier Part Number 1: LTC1540CS8#PBF-ND; Supplier Part Number 2: LTC1540CMS8#PBF-ND
footprint SOIC 8 (8-Pin Small Outline Integrated Circuit 1.27 mm Pitch, IPC High Density)
footprint MSOP8 (TSOP, 8-Leads, Body 3.1x3.1mm (max), Pitch 0.65mm, IPC Medium Density)
pins: 1 GND, 2 V-, 3 IN+, 4 IN-, 5 HYST, 6 REF, 7 V+, 8 OUT

## M22 2x9 Female SMD Header_1
designator P?, comment 791077058
footprint M22-18pin-female-thd (Molex 791077058)
pins: 1, 2, 3, 4, 5, 6, 7, 8, 9, 10, 11, 12, 13, 14, 15, 16, 17, 18

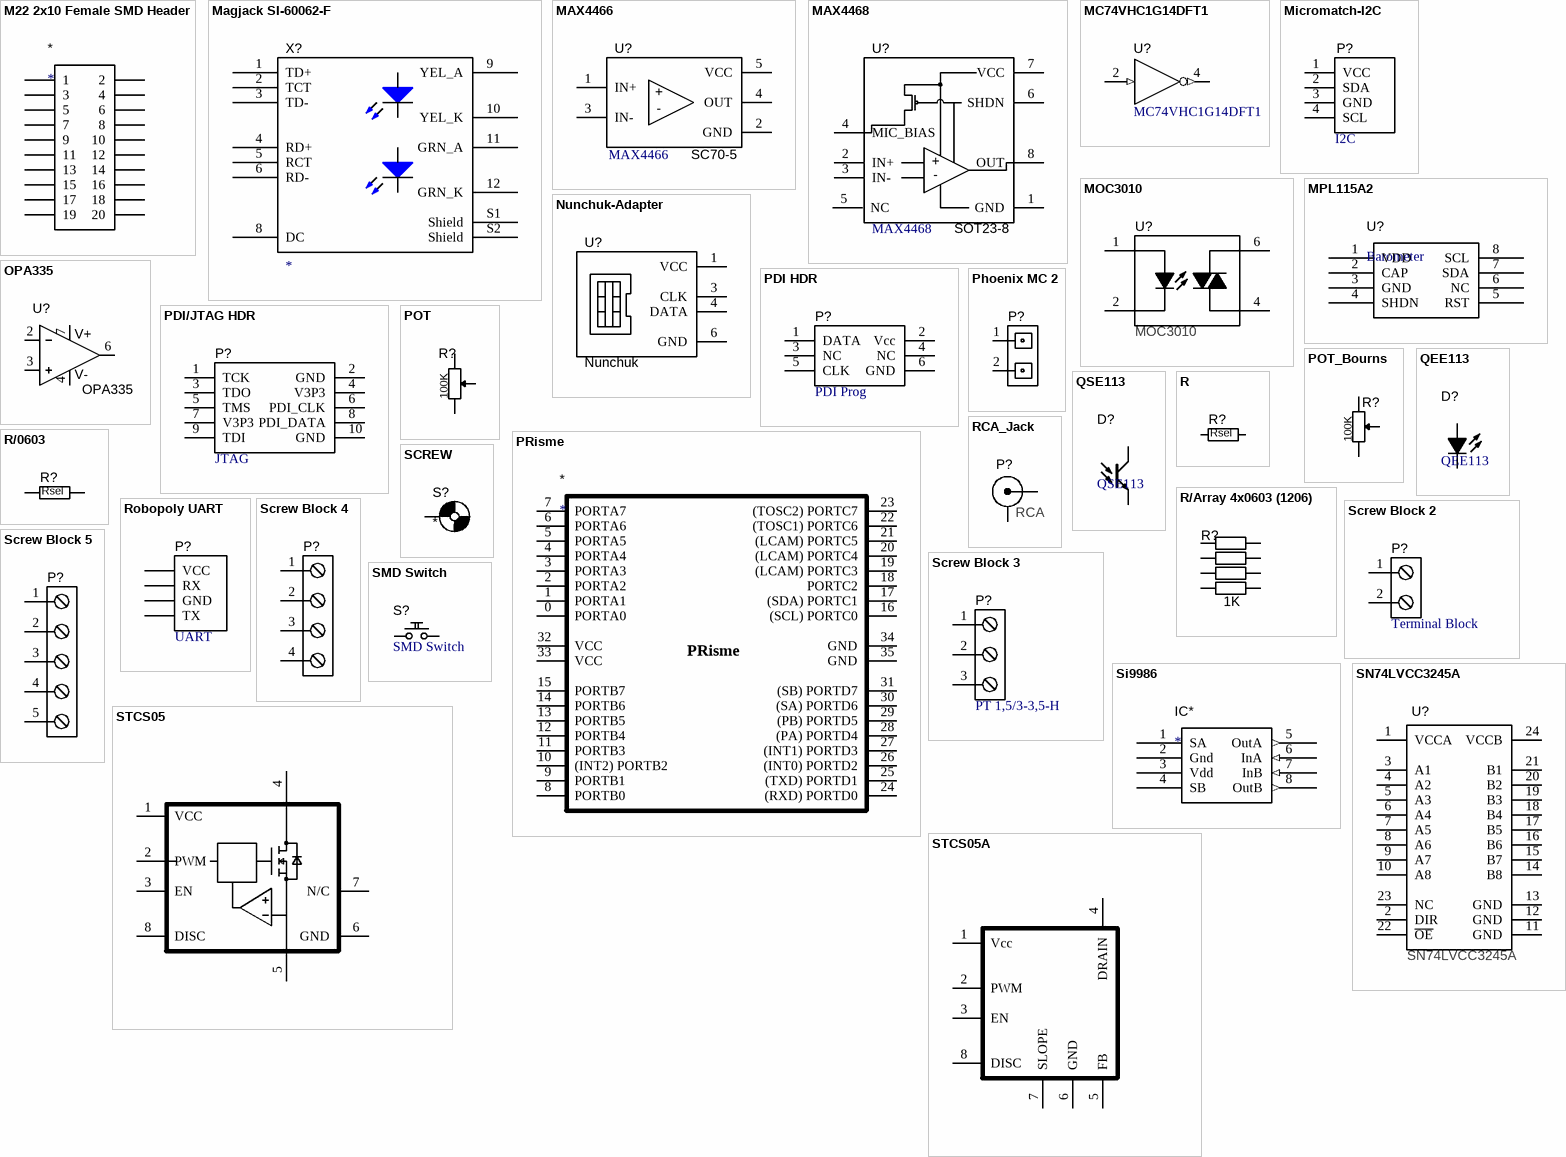
[diagram p3: symbols M22 2x10 Female SMD Header to STCS05A]

## M22 2x10 Female SMD Header
designator *
footprint M22-20pin-female-smd
footprint M22-Comp-20pin-female-smd (Mating footprint for sensor boards)
pins: 1, 2, 3, 4, 5, 6, 7, 8, 9, 10, 11, 12, 13, 14, 15, 16, 17, 18, 19, 20

## Magjack SI-60062-F
designator X?
footprint FCC_RJ45_BLINDE_BSC_4303696
pins: 1 TD+, 2 TCT, 3 TD-, 4 RD+, 5 RCT, 6 RD-, 8 DC, 9 YEL_A, 10 YEL_K, 11 GRN_A, 12 GRN_K, S1 Shield, S2 Shield

## MAX4466
designator U?
Micropower Microphone Preamp
footprint SC70-5 (SOT23, 5-Leads, Body 2.1x2.1mm (max), Pitch 0.65mm, IPC Low Density)
pins: 1 IN+, 2 GND, 3 IN-, 4 OUT, 5 VCC
text: +; -; SC70-5

## MAX4468
designator U?
Micropower Microphone Preamp
footprint SOIC 8 (8-Pin Small Outline Integrated Circuit 1.27 mm Pitch, IPC High Density)
pins: 1 GND, 2 IN+, 3 IN-, 4 MIC_BIAS, 5 NC, 6 SHDN, 7 VCC, 8 OUT
text: +; -; SOT23-8

## MC74VHC1G14DFT1
designator U?
Schmitt-Trigger Inverter; Note: Pin 1 is NC and is not drawn.; Published: 15-Apr-2002; LatestRevisionDate: 12-Dec-2006; LatestRevisionNote: IPC-7351 Footprint Added.; DatasheetVersion: Nov-1999; PackageVersion: Oct-1999; PackageReference: 419A-01; Publisher: Altium Limited; PackageDescription: 5-Pin SOT-353 Package 0.65 mm Pitch, 2.1 mm Lead Span; ComponentLink1Description: Manufacturer Link; ComponentLink1URL: http://www.onsemi.com/; ComponentLink2Description: Datasheet; ComponentLink2URL: http://www.onsemi.com/pub/Collateral/MC74VHC1G14-D.PDF; Supplier 1: Digi-Key; Supplier 2: Mouser; Supplier 3: Farnell; Supplier Part Number 1: 568-2641-1-ND; Supplier Part Number 2: 771-HC1G14GV125; Supplier Part Number 3: 1867067
footprint SOT23-5 (SOT23, 5-Leads, Body 3.1x3.0mm (max), Pitch 0.95mm, IPC Low Density)
pins: 2 A (in), 3 GND (power) hidden to GND, 4 ~{Y} (out), 5 VCC (power) hidden to VCC

## Micromatch-I2C
designator P?, comment I2C
Micromatch I2C Connector
footprint TYCO/215079-4
pins: 1 VCC, 2 SDA, 3 GND, 4 SCL

## MOC3010
designator U?
Optoisolator Triac Driver output
footprint MOC3010 (Optocoupler for TRIACs)
footprint DIP6
pins: 1 A, 2 K, 3 NC hidden, 4 MAIN, 5 N/C hidden, 6 MAIN

## MPL115A2
designator U?, comment Barometer
Digital I2C Barometer
footprint LGA8 (LGA 8 Footprint for I2C barometer)
pins: 1 VDD (power), 2 CAP (power), 3 GND (power), 4 SHDN, 5 RST, 6 NC, 7 SDA, 8 SCL

## Nunchuk-Adapter
designator U?, comment Nunchuk
Wii Nunchuk Board edge Adapter
footprint Nunchuk-Adapter (Wii Nunchuk Board Edge Adapter)
pins: 1 VCC, 2 NC hidden, 3 CLK, 4 DATA, 5 NC hidden, 6 GND

## OPA335
designator U?
IC OPAMP GP R-R 38MHZ SGL 8DIP; Supplier 1: Digi-Key; Supplier Part Number 1: 296-13467-5-ND
footprint SOIC 8 (8-Pin Small Outline Integrated Circuit 1.27 mm Pitch, IPC High Density)
pins: 2 IN-, 3 IN+, 4 V-, 6 OUT, 7 V+

## PDI HDR
designator P?, comment PDI Prog
PDI Programming Header; LatestRevisionDate: 17-Jul-2002; LatestRevisionNote: Re-released for DXP Platform.; Publisher: Altium Limited
footprint HEADER2X3 (Connector; Header; 3x2 Position)
pins: 1 DATA, 2 Vcc, 3 NC, 4 NC, 5 CLK, 6 GND

## PDI/JTAG HDR
designator P?, comment JTAG
JTAG+PDI Header for ATXmega; LatestRevisionDate: 17-Jul-2002; LatestRevisionNote: Re-released for DXP Platform.; Publisher: Altium Limited
footprint HEADER2X5 (Connector; Header; 5x2 Position)
footprint HDR M_2x5_1.27mm_SMT
footprint HEADER2X5 Shrouded (Connector; Header; 5x2 Position)
pins: 1 TCK, 2 GND, 3 TDO, 4 V3P3, 5 TMS, 6 PDI_CLK, 7 V3P3, 8 PDI_DATA, 9 TDI, 10 GND

## Phoenix MC 2
designator P?, comment MC 1,5/ 2-G-3,5  (value not drawn)
Female jack 3.5mm for screw-in connectors; Publisher: Robopoly
footprint Phoenix MC 2-Pole (MC 1,5/ 2-G-3,5 - Ref 1844210)
pins: 1, 2

## POT
designator R?  value 100K  (hidden comment: POT)
Potentiometer; Published: 8-Jun-2000; LatestRevisionDate: 17-Jul-2002; LatestRevisionNote: Re-released for DXP Platform.; PackageReference: AXIAL-0.4; Publisher: Altium Limited
footprint Pot/Alps RK09K (Alps 9mm Potentiometer, through hole)
pins: 1, 2, 3

## POT_Bourns
designator R?  value 100K  (hidden comment: POT_Bourns)
Potentiometer; Published: 8-Jun-2000; LatestRevisionDate: 17-Jul-2002; LatestRevisionNote: Re-released for DXP Platform.; PackageReference: AXIAL-0.4; Publisher: Altium Limited
footprint POT/Bourns-3362P (1/4" Trim Pot - through hole)
pins: 1 "CounterClockwise", 2 "Wiper", 3 "ClockWise"

## PRisme
designator *
footprint PRisme (Robopoly PRisme)
footprint PRisme - FemaleUnder (Robopoly PRisme - Underside Female Connectors)
pins: 0 PORTA0, 1 PORTA1, 2 PORTA2, 3 PORTA3, 4 PORTA4, 5 PORTA5, 6 PORTA6, 7 PORTA7, 8 PORTB0, 9 PORTB1, 10 (INT2) PORTB2, 11 PORTB3, 12 PORTB4, 13 PORTB5, 14 PORTB6, 15 PORTB7, 16 (SCL) PORTC0, 17 (SDA) PORTC1, 18 PORTC2, 19 (LCAM) PORTC3, 20 (LCAM) PORTC4, 21 (LCAM) PORTC5, 22 (TOSC1) PORTC6, 23 (TOSC2) PORTC7, 24 (RXD) PORTD0, 25 (TXD) PORTD1, 26 (INT0) PORTD2, 27 (INT1) PORTD3, 28 (PA) PORTD4, 29 (PB) PORTD5, 30 (SA) PORTD6, 31 (SB) PORTD7, 32 VCC, 33 VCC, 34 GND, 35 GND

## QEE113
designator D?
Infrared Emitter, Side Looking; Supplier 1: Digi-Key; Supplier 2: Mouser; Supplier 3: Farnell; Supplier Part Number 1: QEE113-ND; Supplier Part Number 2: 512-QEE113; Supplier Part Number 3: 1652528
footprint SideLooker, Transparent (Side Looker Package for IR Emitter)
pins: 1 A, 2 K

## QSE113
designator D?
Infrared Phototransistor, Side Looking; Supplier 1: Mouser; Supplier 2: Farnell; Supplier 3: Digi-Key; Supplier Part Number 1: 512-QSE113; Supplier Part Number 2: 1021147; Supplier Part Number 3: QSE113-ND
footprint SideLooker, Black (Side Looker Package for IR Receiver)
pins: 1 A, 2 K

## R
designator R?, comment Rsel
Resistor; Published: 8-Jun-2000; LatestRevisionDate: 17-Jul-2002; LatestRevisionNote: Re-released for DXP Platform.; PackageReference: AXIAL-0.4; Publisher: Altium Limited; Value: Rsel
footprint R/0603 (Chip Resistor, Body 1.6x0.8mm, IPC High Density)
footprint R/0805 (Chip Resistor; Body 2.0 x 1.3 mm (LxW typ))
footprint R/1206 (Chip Resistor, Body 3.2x1.6mm, IPC Low Density)
pins: 1, 2

## R/0603
designator R?, comment Rsel
Resistor; Published: 8-Jun-2000; LatestRevisionDate: 17-Jul-2002; LatestRevisionNote: Re-released for DXP Platform.; PackageReference: AXIAL-0.4; Publisher: Altium Limited; Value: Rsel
footprint R/0603 (Chip Resistor, Body 1.6x0.8mm, IPC High Density)
pins: 1, 2

## R/Array 4x0603 (1206)
designator R?, comment value 1K  (hidden comment: Res)
Resistor; Published: 8-Jun-2000; LatestRevisionDate: 17-Jul-2002; LatestRevisionNote: Re-released for DXP Platform.; PackageReference: AXIAL-0.4; Publisher: Altium Limited
footprint R/Array x4/1206 (4x0603 (Total 1206))
pins: 1, 2 1, 3 1, 4 1, 5 2, 6 2, 7 2, 8 2

## RCA_Jack
designator P?, comment RCA
RCA Jack
footprint RCA-White (RCA Through Hole Jack - White)
pins: 1, 2

## Robopoly UART
designator P?, comment UART
Robopoly UART; LatestRevisionDate: 17-Jul-2002; LatestRevisionNote: Re-released for DXP Platform.; Publisher: Altium Limited
footprint Robopoly UART Header (Connector; Header; 4 Position)
footprint Robopoly UART RA Header (Connector; Header; Right Angle; 4 Position)
pins: 1 VCC, 2 RX, 3 GND, 4 TX

## SCREW
designator S?
footprint HW/SCREW/M2_5
footprint HW/SCREW/M3
footprint HW/SCREW/M2_5/No3D
pins: 1

## Screw Block 2
designator P?, comment Terminal Block
2-Pin Screw Terminal; LatestRevisionDate: 17-Jul-2002; LatestRevisionNote: Re-released for DXP Platform.; Publisher: Altium Limited
footprint Phoenix PT 2-Pole (PT 1,5/ 2-3,5-H - Ref 1984617)
pins: 1, 2

## Screw Block 3
designator P?, comment PT 1,5/3-3,5-H
3-Pin Screw Terminal; LatestRevisionDate: 17-Jul-2002; LatestRevisionNote: Re-released for DXP Platform.; Publisher: Altium Limited
footprint Phoenix PT 3-Pole (PT 1,5/ 3-3,5-H - Ref 1984620)
pins: 1, 2, 3

## Screw Block 4
designator P?, comment PT 1,5/4-3,5-H  (value not drawn)
4-Pin Screw Terminal; LatestRevisionDate: 17-Jul-2002; LatestRevisionNote: Re-released for DXP Platform.; Publisher: Altium Limited
footprint Phoenix PT 4-Pole (PT 1,5/ 4-3,5-H - Ref 1984633)
pins: 1, 2, 3, 4

## Screw Block 5
designator P?, comment PT 1,5/4-3,5-H  (value not drawn)
5-Pin Screw Terminal; LatestRevisionDate: 17-Jul-2002; LatestRevisionNote: Re-released for DXP Platform.; Publisher: Altium Limited
footprint Phoenix PT 5-Pole (PT 1,5/ 4-3,5-H - Ref 1984633)
pins: 1, 2, 3, 4, 5

## Si9986
designator IC*
Buffered H-Bridge
footprint SOIC8-Si9986 (8-Pin Small Outline Integrated Circuit 1.27 mm Pitch, IPC High Density)
pins: 1 SA (power), 2 Gnd (power), 3 Vdd (power), 4 SB (power), 5 OutA (out), 6 InA (in), 7 InB (in), 8 OutB (out)

## SMD Switch
designator S?
Switch; Published: 24-Mar-1999; LatestRevisionDate: 17-Jul-2002; LatestRevisionNote: Re-released for DXP Platform.; PackageReference: SPST-2; Publisher: Altium Limited
footprint SMD_SW_Red
footprint SMD_SW_Black
footprint SMD_SW_Blue
footprint SMD_SW_Green
footprint SMD_SW_Yellow
pins: 1, 2

## SN74LVCC3245A
designator U?
Octal Bus Transceiver with adjustable output voltage and 3-state outputs
footprint TSSOP24 (TSOP, 24-Leads, Body 7.9x4.5mm (max), Pitch 0.65mm, IPC Low Density)
pins: 1 VCCA, 2 DIR, 3 A1, 4 A2, 5 A3, 6 A4, 7 A5, 8 A6, 9 A7, 10 A8, 11 GND, 12 GND, 13 GND, 14 B8, 15 B7, 16 B6, 17 B5, 18 B4, 19 B3, 20 B2, 21 B1, 22 ~{OE}, 23 NC, 24 VCCB

## STCS05
designator U?
Constant Current 0.5A LED driver
footprint SOIC 8 (8-Pin Small Outline Integrated Circuit 1.27 mm Pitch, IPC High Density)
pins: 1 VCC, 2 PWM, 3 EN, 4 DRAIN, 5 FB, 6 GND, 7 N/C, 8 DISC

## STCS05A
designator U?
Constant Current 0.5A LED driver; Supplier 1: Digi-Key; Supplier 2: Mouser; Supplier Part Number 1: 497-6837-1-ND; Supplier Part Number 2: 511-STCS05ADR
footprint SOIC 8 (8-Pin Small Outline Integrated Circuit 1.27 mm Pitch, IPC High Density)
pins: 1 Vcc, 2 PWM, 3 EN, 4 DRAIN, 5 FB, 6 GND, 7 SLOPE, 8 DISC

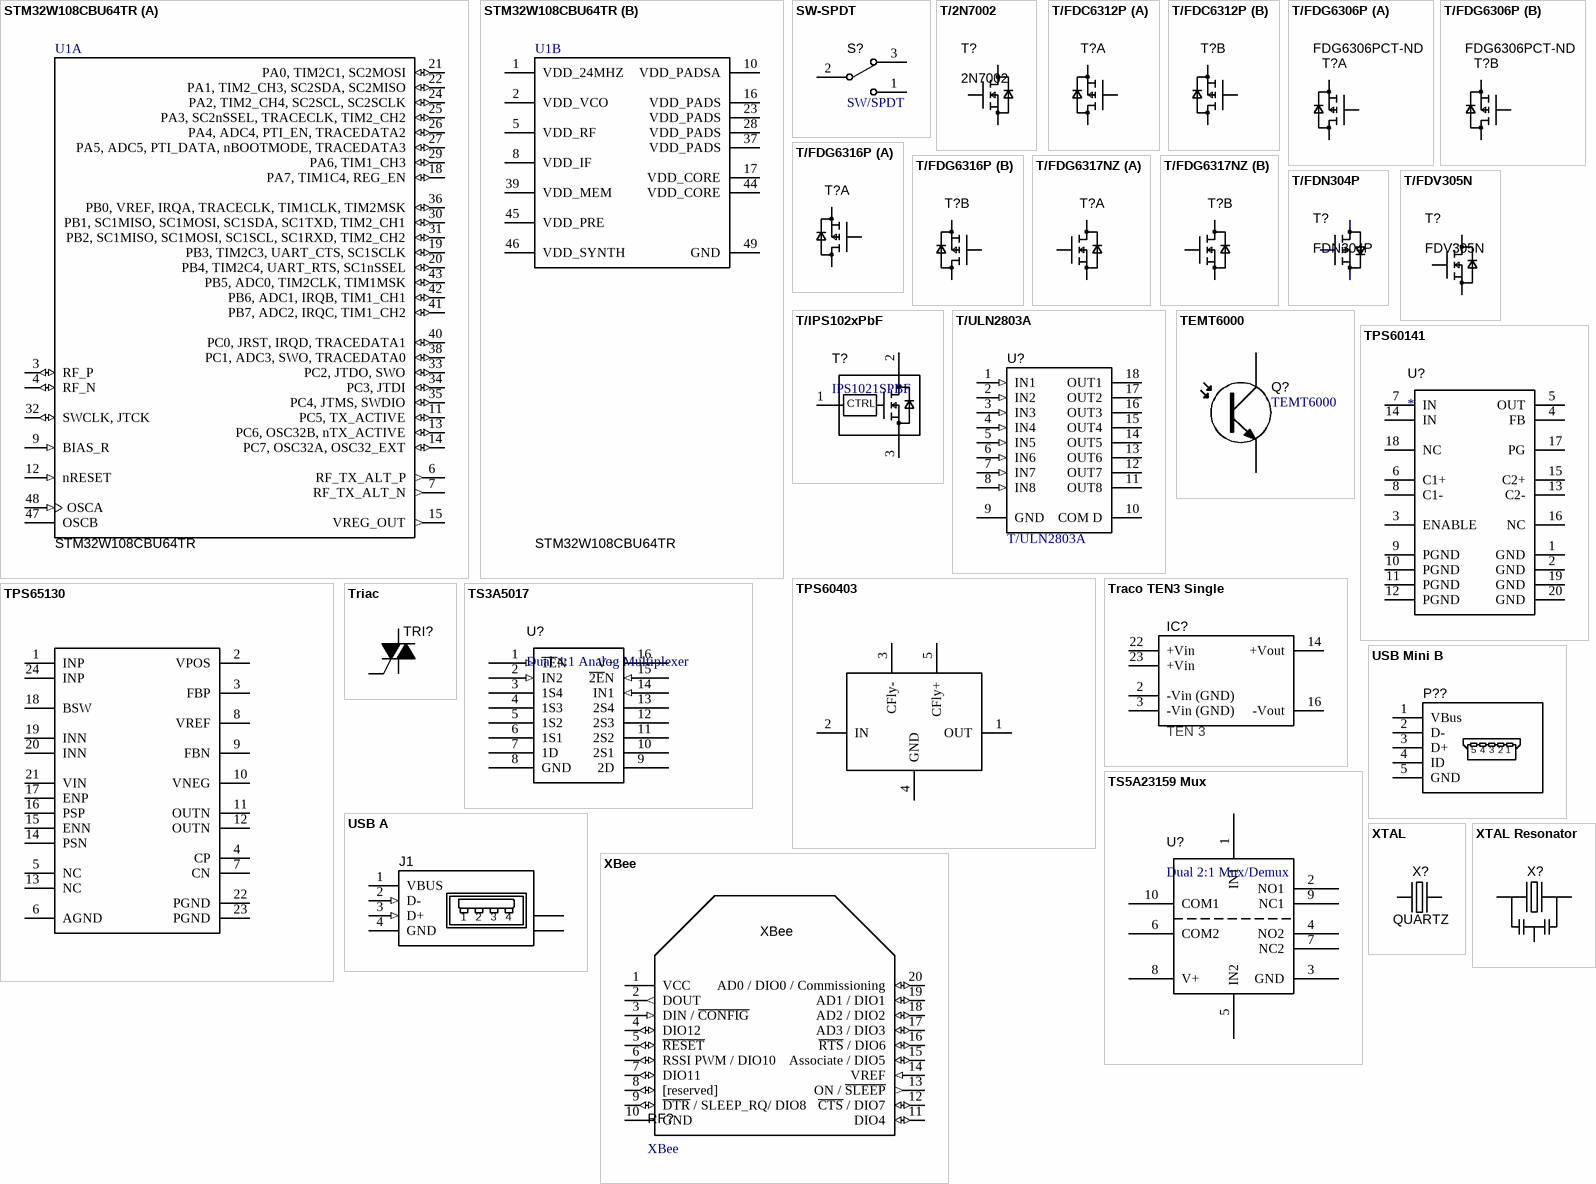
[diagram p4: symbols STM32W108CBU64TR to XTAL Resonator]

## STM32W108CBU64TR
designator U1
STM32W ARM-based 32-bit RF MCU with IEEE 802.15.4 media access control, 128 kB Flash, 8 kB Internal RAM, -40 to +85°C Temperature, 48-pin QFN, Tape and Reel; ComponentLink3Description: st.com Home; PackageReference: VFQFPN48; DatasheetVersion: rev8, Apr-2011; ComponentLink1URL: http://www.st.com/internet/com/TECHNICAL_RESOURCES/TECHNICAL_LITERATURE/DATASHEET/CD00248316.pdf; ComponentLink3URL: http://www.st.com/internet/com/home/home.jsp; PackageDescription: 48-Pin Quad Flat No-Lead, 7 x 7 x 0.9 mm Body, 0.5 mm Pitch, Exposed Pad; ComponentLink2Description: STM32W Web Page; PackageVersion: 2011; ComponentLink2URL: http://www.st.com/internet/mcu/subclass/1377.jsp; ComponentLink1Description: STM32W108xx Datasheet
footprint VFQFPN48_M (QFN, 48-Leads, Body 7x7mm, Pitch 0.5mm, Thermal Pad 5.3x5.3mm, IPC Low Density)
footprint VFQFPN48_L (QFN, 48-Leads, Body 7x7mm, Pitch 0.5mm, Thermal Pad 5.3x5.3mm, IPC High Density)
footprint VFQFPN48_N (QFN, 48-Leads, Body 7x7mm, Pitch 0.5mm, Thermal Pad 5.3x5.3mm, IPC Medium Density)
part A pins: 3 RF_P (io), 4 RF_N (io), 6 RF_TX_ALT_P (out), 7 RF_TX_ALT_N (out), 9 BIAS_R (in), 11 PC5, TX_ACTIVE (io), 12 nRESET (in), 13 PC6, OSC32B, nTX_ACTIVE (io), 14 PC7, OSC32A, OSC32_EXT (io), 15 VREG_OUT (out), 18 PA7, TIM1C4, REG_EN (io), 19 PB3, TIM2C3, UART_CTS, SC1SCLK (io), 20 PB4, TIM2C4, UART_RTS, SC1nSSEL (io), 21 PA0, TIM2C1, SC2MOSI (io), 22 PA1, TIM2_CH3, SC2SDA, SC2MISO (io), 24 PA2, TIM2_CH4, SC2SCL, SC2SCLK (io), 25 PA3, SC2nSSEL, TRACECLK, TIM2_CH2 (io), 26 PA4, ADC4, PTI_EN, TRACEDATA2 (io), 27 PA5, ADC5, PTI_DATA, nBOOTMODE, TRACEDATA3 (io), 29 PA6, TIM1_CH3 (io), 30 PB1, SC1MISO, SC1MOSI, SC1SDA, SC1TXD, TIM2_CH1 (io), 31 PB2, SC1MISO, SC1MOSI, SC1SCL, SC1RXD, TIM2_CH2 (io), 32 SWCLK, JTCK (io), 33 PC2, JTDO, SWO (io), 34 PC3, JTDI (io), 35 PC4, JTMS, SWDIO (io), 36 PB0, VREF, IRQA, TRACECLK, TIM1CLK, TIM2MSK (io), 38 PC1, ADC3, SWO, TRACEDATA0 (io), 40 PC0, JRST, IRQD, TRACEDATA1 (io), 41 PB7, ADC2, IRQC, TIM1_CH2 (io), 42 PB6, ADC1, IRQB, TIM1_CH1 (io), 43 PB5, ADC0, TIM2CLK, TIM1MSK (io), 47 OSCB, 48 OSCA (in)
part B pins: 1 VDD_24MHZ (power), 2 VDD_VCO (power), 5 VDD_RF (power), 8 VDD_IF (power), 10 VDD_PADSA (power), 16 VDD_PADS (power), 17 VDD_CORE (power), 23 VDD_PADS (power), 28 VDD_PADS (power), 37 VDD_PADS (power), 39 VDD_MEM (power), 44 VDD_CORE (power), 45 VDD_PRE (power), 46 VDD_SYNTH (power), 49 GND (power)

## SW-SPDT
designator S?, comment SW/SPDT
SPDT Subminiature Toggle Switch, Right Angle Mounting, Vertical Actuation; Published: 24-Mar-1999; LatestRevisionDate: 17-Dec-2003; LatestRevisionNote: Schematic revised, PCB Footprint replaced.; DatasheetVersion: 05-Dec-2000; PackageReference: TL36WW15050; Publisher: Altium Limited; PackageDescription: Switch; 4 Leads; ComponentLink1Description: Manufacturer Link; ComponentLink1URL: http://www.apem.com
footprint SW/OS-SPDT (OS102011MA1QS1)
pins: 1, 2, 3

## T/2N7002
designator T?, comment 2N7002
MOSFET N SOT-23
footprint SOT23-3 (SOT23, 3-Leads, Body 3.0x2.6mm (max), Pitch 0.95mm, IPC Low Density)
pins: 1 G, 2 S, 3 D

## T/FDC6312P
designator T?, comment FDC6312P  (value not drawn)
Dual P-Channel 1.8V PowerTrench MOSFET; Supplier 1: Mouser; Supplier Part Number 1: 512-FDC6312P
footprint SSOT-6 (TSOP, 6-Leads, Body 3.0x1.7mm (max), Pitch 0.95mm, IPC Low Density)
part A pins: 1 D, 5 S, 6 G
part B pins: 2 S, 3 G, 4 D

## T/FDG6306P
designator T?, comment Supplier Part Number 1: FDG6306PCT-ND  (hidden comment: FDG6306P)
Dual P-Channel 2.5V Specified PowerTrench MOSFET; Supplier 1: Digi-Key
footprint SC70-6 (SOT23, 6-Leads, Body 2.1x2.1mm (max), Pitch 0.65mm, IPC Low Density)
part A pins: 3 D, 4 S, 5 G
part B pins: 1 S, 2 G, 6 D

## T/FDG6316P
designator T?, comment FDG6316P  (value not drawn)
Dual P-Channel 1.8V Specified PowerTrench MOSFET; Supplier 1: Mouser; Supplier Part Number 1: 512-FDG6316P
footprint SC70-6 (SOT23, 6-Leads, Body 2.1x2.1mm (max), Pitch 0.65mm, IPC Low Density)
part A pins: 3 D, 4 S, 5 G
part B pins: 1 S, 2 G, 6 D

## T/FDG6317NZ
designator T?, comment FDG6317NZ  (value not drawn)
Dual N-Channel 20V PowerTrench MOSFET; Supplier 1: Mouser; Supplier Part Number 1: 512-FDG6317NZ
footprint SC70-6 (SOT23, 6-Leads, Body 2.1x2.1mm (max), Pitch 0.65mm, IPC Low Density)
part A pins: 3 D, 4 S, 5 G
part B pins: 1 S, 2 G, 6 D

## T/FDN304P
designator T?, comment FDN304P
MOSFET P SOT-23; Supplier 1: Mouser; Supplier Part Number 1: 512-FDN304P
footprint SOT23-3 (SOT23, 3-Leads, Body 3.0x2.6mm (max), Pitch 0.95mm, IPC Low Density)
pins: 1 G, 2 S, 3 D

## T/FDV305N
designator T?, comment FDV305N
MOSFET N SOT-23 20V 220mOhm; Supplier 1: Digi-Key; Supplier Part Number 1: FDV305NCT-ND
footprint SOT23-3 (SOT23, 3-Leads, Body 3.0x2.6mm (max), Pitch 0.95mm, IPC Low Density)
pins: 1 G, 2 S, 3 D

## T/IPS102xPbF
designator T?, comment IPS1021SPBF
Intelligent Power Low Side Switch; Supplier 1: Digi-Key; Supplier 2: Digi-Key; Supplier 3: Farnell; Supplier Part Number 2: IPS1021SPBF-ND; Supplier Part Number 3: 1388578; Supplier Part Number 1: IPS1021RPBF-ND
footprint TO-252 (DPAK) (D-PAK, 3-Pads, Body 9.6x9.6mm (max), IPC Medium Density)
footprint TO-263 (D2PAK) (D2-PAK, 3-Pads, Body 9.6x9.6mm (max), IPC Medium Density)
pins: 1 IN, 2 D, 3 S
text: CTRL

## T/ULN2803A
designator U?
High-Voltage, High-Current Darlington Array; Published: 13-Oct-2000; LatestRevisionDate: 06-Jun-2005; LatestRevisionNote: Stylized 3D Model Added.; DatasheetVersion: 1999; PackageVersion: 1999; PackageReference: A18; Publisher: Altium Limited; PackageDescription: DIP; 18 Leads; Row Spacing 7.62 mm; Pitch 2.54 mm; ComponentLink1Description: Manufacturer Link; ComponentLink1URL: http://www.allegromicro.com/
footprint SOIC127P1030X265-18M (SOIC, 18-Leads, Body 11.8x7.6mm (max), Pitch 1.27mm, IPC Low Density)
pins: 1 IN1 (in), 2 IN2 (in), 3 IN3 (in), 4 IN4 (in), 5 IN5 (in), 6 IN6 (in), 7 IN7 (in), 8 IN8 (in), 9 GND (power), 10 COM D, 11 OUT8 (oc), 12 OUT7 (oc), 13 OUT6 (oc), 14 OUT5 (oc), 15 OUT4 (oc), 16 OUT3 (oc), 17 OUT2 (oc), 18 OUT1 (oc)

## TEMT6000
designator Q?
NPN Phototransistor; Published: 24-Mar-1999; LatestRevisionDate: 17-Jul-2002; PackageReference: TO-220_A; Code_JEDEC: TO-220-AC
footprint TEMT6000 (Ambient Light Phototransistor - 1206)
pins: 1 C, 3 E

## TPS60141
designator U?
5V, 100mA, Charge-pump voltage regulator
footprint HTSSOP20
pins: 1 GND (power), 2 GND (power), 3 ENABLE, 4 FB, 5 OUT, 6 C1+, 7 IN (power), 8 C1-, 9 PGND (power), 10 PGND (power), 11 PGND (power), 12 PGND (power), 13 C2-, 14 IN (power), 15 C2+, 16 NC, 17 PG, 18 NC, 19 GND (power), 20 GND (power)

## TPS60403
designator U?
Switched Capacitor Inverter; Supplier 1: Digi-Key; Supplier Part Number 1: 296-18036-1-ND
footprint SOT23-5 (SOT23, 5-Leads, Body 3.1x3.0mm (max), Pitch 0.95mm, IPC Low Density)
pins: 1 OUT, 2 IN, 3 CFly-, 4 GND, 5 CFly+

## TPS65130
designator U?
Positive and negative output DC-DC converter; Supplier 1: Digi-Key; Supplier 2: Mouser; Supplier 3: Mouser; Supplier Part Number 1: ATXMEGA32A4-AU-ND; Supplier Part Number 3: 556-ATXMEGA32A4-AU
footprint QFN50P400X400X80-24M (QFN, 24-Leads, Body 4.2x4.2mm (max), Pitch 0.50mm, IPC Low Density)
pins: 1 INP, 2 VPOS, 3 FBP, 4 CP, 5 NC, 6 AGND, 7 CN, 8 VREF, 9 FBN, 10 VNEG, 11 OUTN, 12 OUTN, 13 NC, 14 PSN, 15 ENN, 16 PSP, 17 ENP, 18 BSW, 19 INN, 20 INN, 21 VIN, 22 PGND, 23 PGND, 24 INP

## Traco TEN3 Single
designator IC?, comment TEN 3
3W Single Output DC-DC Converter
footprint Traco TEN3-Single (Traco TEN3 Single Output DC-DC)
pins: 2 -Vin (GND), 3 -Vin (GND), 11 NC hidden, 14 +Vout, 16 -Vout, 22 +Vin, 23 +Vin

## Triac
designator TRI?  (value not drawn)
footprint Z04 (600V 4A Triac)
pins: 1 A1, 2 A2, 3 G

## TS3A5017
designator U?, comment Dual 4:1 Analog Multiplexer
footprint SOIC 16 (14-Pin Small Outline Integrated Circuit 1.27 mm Pitch, IPC Low Density)
pins: 1 ~{1E}N (in), 2 IN2 (in), 3 1S4, 4 1S3, 5 1S2, 6 1S1, 7 1D, 8 GND (power), 9 2D, 10 2S1, 11 2S2, 12 2S3, 13 2S4, 14 IN1 (in), 15 ~{2E}N (in), 16 V+ (power)

## TS5A23159 Mux
designator U?, comment Dual 2:1 Mux/Demux
Dual SPDT Multiplexer; Farnell: 1564921
footprint DGS S-PDSO-G10
pins: 1 IN1, 2 NO1, 3 GND (power), 4 NO2, 5 IN2, 6 COM2 (power), 7 NC2 (power), 8 V+ (power), 9 NC1, 10 COM1

## USB A
designator J1  (value not drawn)
USB 1.1, Right Angle, SMT, A Type, Receptacle, 4 Position, White; ContactMaterial: Copper Alloy; ContactPlating: Gold over Palladium Nickel; PCB_Layout: Complies with manufacturer's recommendation.; DrillSize: Corresponds to nominal value.; PanelGround: Without; Published: 15-Jul-2004; DatasheetDocument: 11-Apr-2003; PackageDocument: 11-Apr-2003; PackageReference: 353576; Publisher: Altium Limited; HousingMaterial: Thermoplastic; ComponentLink1Description: Manufacturer Link; ComponentLink1URL: http://www.tycoelectronics.com/; ComponentLink2Description: Packaging Specification; ComponentLink2URL: http://ecommas.tycoelectronics.com/commerce/DocumentDelivery/DDEController?Action=showdoc&DocId=Customer+Drawing%7F353576%7FD%7Ftif%7FJapanese%7FJPN_CD_353576_D.tif
footprint USB-A-SMD
pins: 1 VBUS (power) "Power", 2 D- (in) "-DATA", 3 D+ (in) "+DATA", 4 GND (power) "Ground", 5 SHLD "Shield", 6 SHLD "Shield"